# Altium schematic symbol library bethu.SchLib: 525 symbols (part 3 of 4)
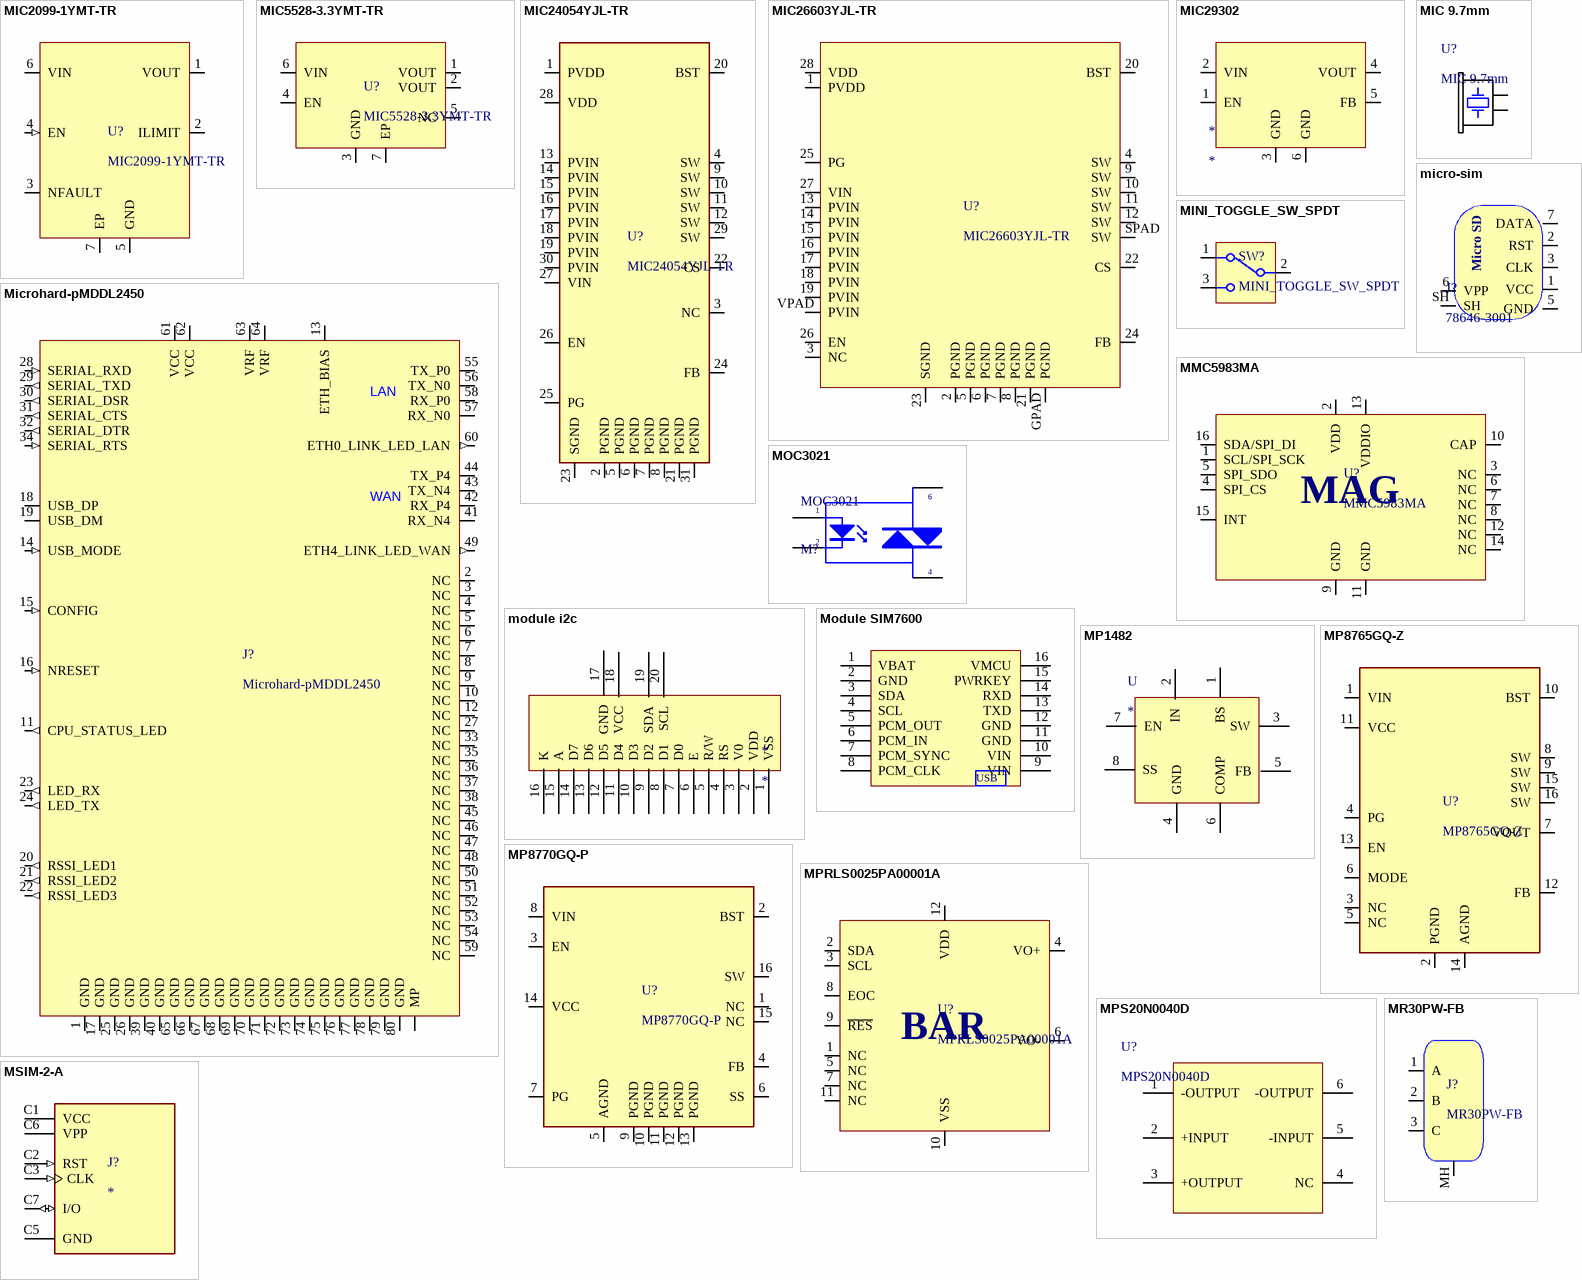
[diagram p24: symbols MIC2099-1YMT-TR to MSIM-2-A]

## MPRLS0025PA00001A
designator U?
Board Mount Absolute Pressure Sensor Honeywell I2C 0 to 25 psi; Manufacturer: Honeywell; Manufacturer Part Number: MPRLS0025PA00001A
footprint MPR-SMD-12
pins: 1 NC, 2 SDA, 3 SCL, 4 VO+, 5 NC, 6 VO-, 7 NC, 8 EOC, 9 ~{RES}, 10 VSS, 11 NC, 12 VDD
text: BAR

## MPS20N0040D
designator U?
footprint MPS20N0040D-S
pins: 1 -OUTPUT, 2 +INPUT, 3 +OUTPUT, 4 NC, 5 -INPUT, 6 -OUTPUT

## MR30PW-FB
designator J?
MR30 Connector Female 3 Position THT PCB-Mount 15A; Manufacturer: AMASS; Manufacturer Part Number: MR30PW-FB
footprint MR30PW-FB
pins: 1 A, 2 B, 3 C, MH

## MSIM-2-A
designator J?
Micro SIM Card Connector, 6 Positions, Connector and Ejector, Push In, Auto Eject Out, Surface Mount, 1.37 mm Height Above Board, Gold Flash; MF: Same Sky; MP: MSIM-2-A; SnapEDA_Link: https://www.snapeda.com/parts/MSIM-2-A/Same+Sky/view-part/?ref=snap; Package: None; Value: *; Check_prices: https://www.snapeda.com/parts/MSIM-2-A/Same+Sky/view-part/?ref=eda
footprint CUI_MSIM-2-A
pins: C1 VCC (power), C2 RST (in), C3 CLK (in), C5 GND (power), C6 VPP (power), C7 I/O (io)

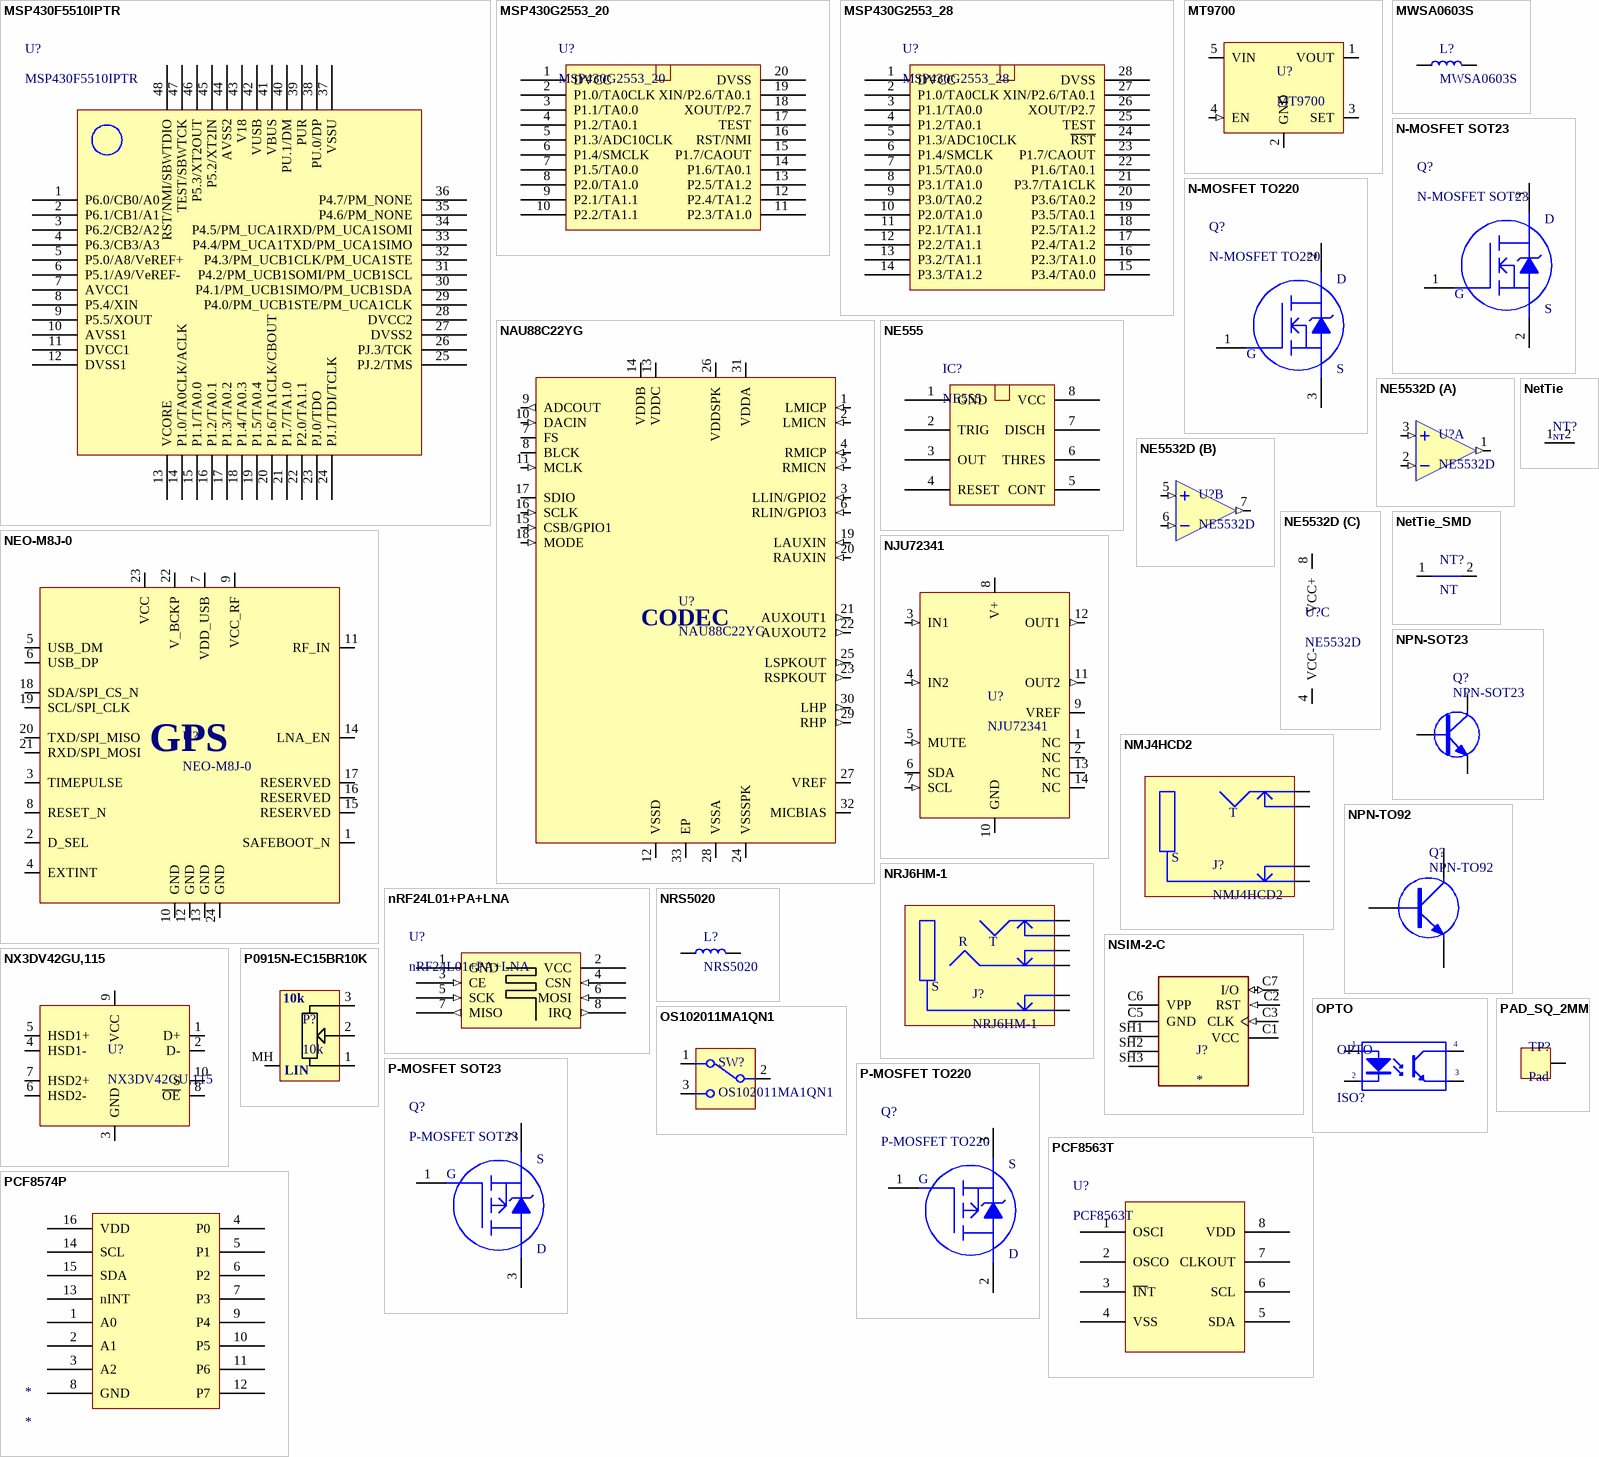
[diagram p13: symbols MSP430F5510IPTR to PCF8574P]

## MSP430F5510IPTR
designator U?
footprint MSP430F5510IPTR (TSQFP, 48-Leads, Body 9.2x9.2mm (max), Pitch 0.50mm, IPC Medium Density)
pins: 1 P6.0/CB0/A0, 2 P6.1/CB1/A1, 3 P6.2/CB2/A2, 4 P6.3/CB3/A3, 5 P5.0/A8/VeREF+, 6 P5.1/A9/VeREF-, 7 AVCC1, 8 P5.4/XIN, 9 P5.5/XOUT, 10 AVSS1, 11 DVCC1, 12 DVSS1, 13 VCORE, 14 P1.0/TA0CLK/ACLK, 15 P1.1/TA0.0, 16 P1.2/TA0.1, 17 P1.3/TA0.2, 18 P1.4/TA0.3, 19 P1.5/TA0.4, 20 P1.6/TA1CLK/CBOUT, 21 P1.7/TA1.0, 22 P2.0/TA1.1, 23 PJ.0/TDO, 24 PJ.1/TDI/TCLK, 25 PJ.2/TMS, 26 PJ.3/TCK, 27 DVSS2, 28 DVCC2, 29 P4.0/PM_UCB1STE/PM_UCA1CLK, 30 P4.1/PM_UCB1SIMO/PM_UCB1SDA, 31 P4.2/PM_UCB1SOMI/PM_UCB1SCL, 32 P4.3/PM_UCB1CLK/PM_UCA1STE, 33 P4.4/PM_UCA1TXD/PM_UCA1SIMO, 34 P4.5/PM_UCA1RXD/PM_UCA1SOMI, 35 P4.6/PM_NONE, 36 P4.7/PM_NONE, 37 VSSU, 38 PU.0/DP, 39 PUR, 40 PU.1/DM, 41 VBUS, 42 VUSB, 43 V18, 44 AVSS2, 45 P5.2/XT2IN, 46 P5.3/XT2OUT, 47 TEST/SBWTCK, 48 RST/NMI/SBWTDIO

## MSP430G2553_20
designator U?
footprint DIP20 (DIP 20, 20 PIN, W 300mil, Pin to pin 100mil)
pins: 1 DVCC, 2 P1.0/TA0CLK, 3 P1.1/TA0.0, 4 P1.2/TA0.1, 5 P1.3/ADC10CLK, 6 P1.4/SMCLK, 7 P1.5/TA0.0, 8 P2.0/TA1.0, 9 P2.1/TA1.1, 10 P2.2/TA1.1, 11 P2.3/TA1.0, 12 P2.4/TA1.2, 13 P2.5/TA1.2, 14 P1.6/TA0.1, 15 P1.7/CAOUT, 16 RST/NMI, 17 TEST, 18 XOUT/P2.7, 19 XIN/P2.6/TA0.1, 20 DVSS

## MSP430G2553_28
designator U?
footprint TSSOP 28PIN (TSOP, 28-Leads, Body 9.8x4.5mm (max), Pitch 0.65mm, IPC Medium Density)
pins: 1 DVCC, 2 P1.0/TA0CLK, 3 P1.1/TA0.0, 4 P1.2/TA0.1, 5 P1.3/ADC10CLK, 6 P1.4/SMCLK, 7 P1.5/TA0.0, 8 P3.1/TA1.0, 9 P3.0/TA0.2, 10 P2.0/TA1.0, 11 P2.1/TA1.1, 12 P2.2/TA1.1, 13 P3.2/TA1.1, 14 P3.3/TA1.2, 15 P3.4/TA0.0, 16 P2.3/TA1.0, 17 P2.4/TA1.2, 18 P2.5/TA1.2, 19 P3.5/TA0.1, 20 P3.6/TA0.2, 21 P3.7/TA1CLK, 22 P1.6/TA0.1, 23 P1.7/CAOUT, 24 ~{RST}, 25 TEST, 26 XOUT/P2.7, 27 XIN/P2.6/TA0.1, 28 DVSS

## MT9700
designator U?
Adjustable Current-Limited Power Distribution Switch; Manufacturer: Aerosemi; Manufacturer Part Number: MT9700
footprint SOT-23-5 (SOT23, 5-Leads, Body 2,90x2,80mm, Pitch 0,95mm, IPC Medium Density)
pins: 1 VOUT (power), 2 GND (power), 3 SET, 4 EN (in), 5 VIN (power)

## MWSA0603S
designator L?
Power Inductor SMD Sunlord MWSA0603S; Manufacturer Part Number: MWSA0603S-; Manufacturer: Sunlord
footprint MWSA0603S
pins: 1, 2

## N-MOSFET SOT23
designator Q?
footprint SOT23 - 3PIN
pins: 1 G, 2 S, 3 D

## N-MOSFET TO220
designator Q?
footprint TO-220 - FLAT
pins: 1 G, 2 D, 3 S

## NAU88C22YG
designator U?
24-bit Stereo Audio Codec with Speaker Driver; Manufacturer: Nuvoton Tech; Manufacturer Part Number: NAU88C22YG
footprint QFN32-5x5-0.5
pins: 1 LMICP (in), 2 LMICN (in), 3 LLIN/GPIO2 (in), 4 RMICP (in), 5 RMICN (in), 6 RLIN/GPIO3 (in), 7 FS (io), 8 BLCK (io), 9 ADCOUT (out), 10 DACIN (in), 11 MCLK (in), 12 VSSD (power), 13 VDDC (power), 14 VDDB (power), 15 CSB/GPIO1 (in), 16 SCLK (in), 17 SDIO (io), 18 MODE (in), 19 LAUXIN (in), 20 RAUXIN (in), 21 AUXOUT1 (out), 22 AUXOUT2 (out), 23 RSPKOUT (out), 24 VSSSPK (power), 25 LSPKOUT (out), 26 VDDSPK (power), 27 VREF (power), 28 VSSA (power), 29 RHP (out), 30 LHP (out), 31 VDDA (power), 32 MICBIAS (power), 33 EP (power)
text: CODEC

## NE555
designator IC?
footprint DIP8 (W.300/L.400)
pins: 1 GND, 2 TRIG, 3 OUT, 4 RESET, 5 CONT, 6 THRES, 7 DISCH, 8 VCC

## NE5532D
designator U?
Dual Low-Noise Operational Amplifiers; Manufacturer: Texas Instruments; Manufacturer Part Number: NE5532D
footprint SOIC-8 (SOIC, 8-Leads, Body 4.91x3.90mm, Pitch 1.27mm, IPC Medium Density)
part A pins: 1 1OUT (out), 2 1IN- (in), 3 1IN+ (in)
part B pins: 5 2IN+ (in), 6 2IN- (in), 7 2OUT (out)
part C pins: 4 VCC-, 8 VCC+

## NEO-M8J-0
designator U?
u-blox M8 concurrent GNSS module; Manufacturer: u-blox; Manufacturer Part Number: NEO-M8J-0
footprint NEO-M8
pins: 1 SAFEBOOT_N, 2 D_SEL, 3 TIMEPULSE, 4 EXTINT, 5 USB_DM, 6 USB_DP, 7 VDD_USB, 8 RESET_N, 9 VCC_RF, 10 GND, 11 RF_IN, 12 GND, 13 GND, 14 LNA_EN, 15 RESERVED, 16 RESERVED, 17 RESERVED, 18 SDA/SPI_CS_N, 19 SCL/SPI_CLK, 20 TXD/SPI_MISO, 21 RXD/SPI_MOSI, 22 V_BCKP, 23 VCC, 24 GND
text: GPS

## NetTie
designator NT?, comment NT  (value not drawn)  (net tie, no BOM)
Net Tie
footprint NETTIE
pins: 1, 2

## NetTie_SMD
designator NT?, comment NT  (net tie, no BOM)
Net Tie SMD
footprint NETTIE_SMD
pins: 1, 2

## NJU72341
designator U?
2-Channel Audio Volume Control I2C; Manufacturer: Nisshinbo; Manufacturer Part Number: NJU72341V-TE2
footprint SSOP-14
pins: 1 NC, 2 NC, 3 IN1 (in), 4 IN2 (in), 5 MUTE (in), 6 SDA (io), 7 SCL (in), 8 V+ (power), 9 VREF (power), 10 GND (power), 11 OUT2 (out), 12 OUT1 (out), 13 NC, 14 NC

## NMJ4HCD2
designator J?
1/4" Mono Jack, TS Switched; Manufacturer: Neutrik; Manufacturer Part Number: NMJ4HCD2
footprint NMJ4HCD2
pins: S, SN, T, TN

## NPN-SOT23
designator Q?
footprint SOT23 - 3PIN
pins: 1 B, 2 E, 3 C

## NPN-TO92
designator Q?
footprint TO-92 (TO, Flat Index; 3 In-Line, Axial Leads; Body Dia. 4.8mm)
pins: 1 E, 2 C, 3 B

## nRF24L01+PA+LNA
designator U?
footprint nRF24L01+PA+LNA (Module nRF24L01+PA+LNA)
pins: 1 GND (power), 2 VCC (power), 3 CE (in), 4 CSN (in), 5 SCK (in), 6 MOSI (in), 7 MISO (out), 8 IRQ (out)

## NRJ6HM-1
designator J?
1/4" Stereo Jack, TRS Switched; Manufacturer: Neutrik; Manufacturer Part Number: NRJ6HM-1
footprint NRJ6HM-1
pins: R, RN, S, SN, T, TN

## NRS5020
designator L?
NRS5020 SMD Power Inductor Taiyo Yuden; Manufacturer: Taiyo Yuden; Manufacturer Part Number: NRS5020
footprint NRS5020
pins: 1, 2

## NSIM-2-C
designator J?
Nano SIM Card Connectors, 6 Positions, Connector, Hinged, Surface Mount, 1.4 mm Height Above Board, Gold Flash; MF: Same Sky; MP: NSIM-2-C; SnapEDA_Link: https://www.snapeda.com/parts/NSIM-2-C/Same+Sky/view-part/?ref=snap; Package: None; Value: *; Check_prices: https://www.snapeda.com/parts/NSIM-2-C/Same+Sky/view-part/?ref=eda
footprint CUI_NSIM-2-C
pins: C1 VCC (power), C2 RST (in), C3 CLK (in), C5 GND (power), C6 VPP (power), C7 I/O (io), SH1 CASE_GND (power), SH2 CASE_GND (power), SH3 CASE_GND (power)

## NX3DV42GU,115
designator U?
USB2.0 HS DPDT Switch; Manufacturer: NXP Semiconductors; Manufacturer Part Number: NX3DV42GU,115
footprint XQFN-10_SOT1160-1
pins: 1 D+, 2 D-, 3 GND, 4 HSD1-, 5 HSD1+, 6 HSD2-, 7 HSD2+, 8 ~{OE}, 9 VCC, 10 S

## OPTO
designator ISO?
Value: TLP5211
footprint PC817 SMD (SMD)
footprint PC817 DIP
pins: 1 A "Anode", 2 K "Cathode", 3 E "Emitter", 4 C "Collector"

## OS102011MA1QN1
designator SW?
Slide Switch SPDT Horizontal THT; Manufacturer: C&K; Manufacturer Part Number: OS102011MA1QN1
footprint OS102011MA1QN1
pins: 1, 2 COM, 3

## P0915N-EC15BR10K
designator P?, comment 10k
Potentiometer Vertical 10k Linear Taper THT PCB-Mount Smooth Shaft w/ Slot D=6mm L=15mm; Manufacturer: TT Electronics; Manufacturer Part Number: P0915N-EC15BR10K
footprint P0915N-EC15BR10K
pins: 1, 2, 3, MH
text: LIN

## P-MOSFET SOT23
designator Q?
footprint SOT23 - 3PIN
pins: 1 G, 2 S, 3 D

## P-MOSFET TO220
designator Q?
footprint TO-220 - FLAT
pins: 1 G, 2 D, 3 S

## PAD_SQ_2MM
designator TP?, comment Pad  (no BOM)
Test Point Square 2mm
footprint PAD_SQ_2MM
pins: 1

## PCF8563T
designator U?
footprint TSSOP 8 PIN
pins: 1 OSCI, 2 OSCO, 3 ~{IN}T, 4 VSS, 5 SDA, 6 SCL, 7 CLKOUT, 8 VDD

## PCF8574P
designator *
footprint SOIC16 DW (SOIC, 16-Leads, Body 10.5x7.6mm (max), Pitch 1.27mm, IPC Medium Density)
pins: 1 A0, 2 A1, 3 A2, 4 P0, 5 P1, 6 P2, 7 P3, 8 GND, 9 P4, 10 P5, 11 P6, 12 P7, 13 nINT, 14 SCL, 15 SDA, 16 VDD

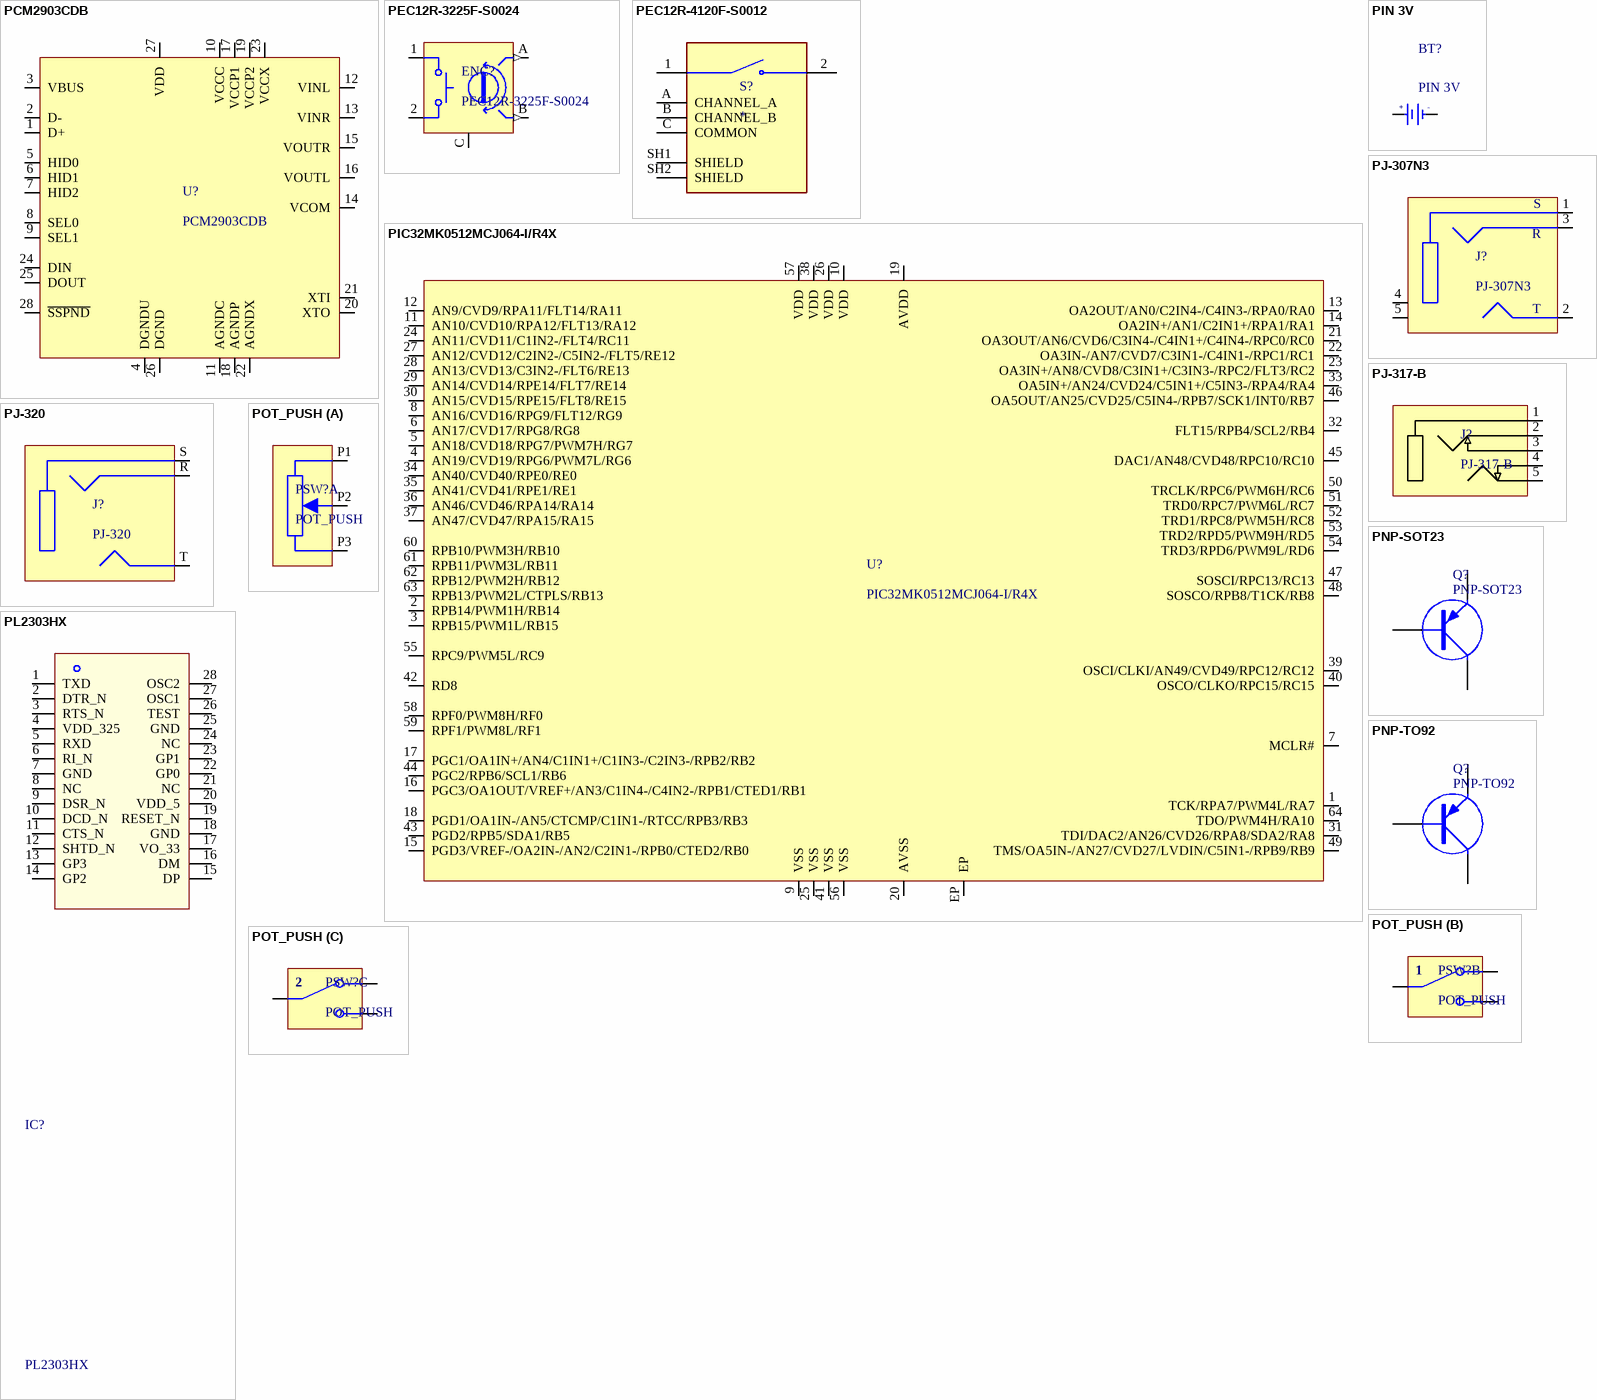
[diagram p14: symbols PCM2903CDB to POT_PUSH]

## PCM2903CDB
designator U?
Stereo USB1.1 CODEC with line-out and S/PDIF I/O, Self-powered (HID Interface); Manufacturer: Texas Instruments; Manufacturer Part Number: PCM2903CDB
footprint SSOP-28
pins: 1 D+, 2 D-, 3 VBUS, 4 DGNDU, 5 HID0, 6 HID1, 7 HID2, 8 SEL0, 9 SEL1, 10 VCCC, 11 AGNDC, 12 VINL, 13 VINR, 14 VCOM, 15 VOUTR, 16 VOUTL, 17 VCCP1, 18 AGNDP, 19 VCCP2, 20 XTO, 21 XTI, 22 AGNDX, 23 VCCX, 24 DIN, 25 DOUT, 26 DGND, 27 VDD, 28 ~{SSPND}

## PEC12R-3225F-S0024
designator ENC?
Rotary Encoder with Switch 20 Detents 7mm Bushing 20mm Threaded Shaft Vertical; Manufacturer: Bourns; Manufacturer Part Number: PEC12R-3225F-S0024; Distributor Link: https://www.mouser.de/ProductDetail/Bourns/PEC12R-3225F-S0024?qs=%252B9%2Fcbd0IE0RkGCm1rUs7CA%3D%3D
footprint PEC12R-3225F-S
pins: 1, 2, A (out), B (out), C GND (power)

## PEC12R-4120F-S0012
designator S?
Mechanical Encoder Rotary Incremental Flat 0.007N.m Straight Quadrature Digital Square Wave 12PPR Through Hole PC Pin; MF: Bourns Inc.; MP: PEC12R-4120F-S0012; SnapEDA_Link: https://www.snapeda.com/parts/PEC12R-4120F-S0012/Bourns/view-part/?ref=snap; Package: None; Value: *; Check_prices: https://www.snapeda.com/parts/PEC12R-4120F-S0012/Bourns/view-part/?ref=eda
footprint XDCR_PEC12R-4120F-S0012
pins: 1, 2, A CHANNEL_A, B CHANNEL_B, C COMMON, SH1 SHIELD, SH2 SHIELD

## PIC32MK0512MCJ064-I/R4X
designator U?
32-bit Motor Control Application MCU with CAN FD, FPU, ECC Flash, 512kB Flash, 64kB SRAM, and Op amps; Manufacturer: Microchip; Manufacturer Part Number: PIC32MK0512MCJ064-I/R4X
footprint QFN-64-9x9x0.9-0.5P (QFN, 64-Leads, Body 9.00x9.00mm, Pitch 0.50mm, Thermal Pad 5.40x5.40mm, IPC Medium Density)
pins: 1 TCK/RPA7/PWM4L/RA7, 2 RPB14/PWM1H/RB14, 3 RPB15/PWM1L/RB15, 4 AN19/CVD19/RPG6/PWM7L/RG6, 5 AN18/CVD18/RPG7/PWM7H/RG7, 6 AN17/CVD17/RPG8/RG8, 7 MCLR#, 8 AN16/CVD16/RPG9/FLT12/RG9, 9 VSS (power), 10 VDD (power), 11 AN10/CVD10/RPA12/FLT13/RA12, 12 AN9/CVD9/RPA11/FLT14/RA11, 13 OA2OUT/AN0/C2IN4-/C4IN3-/RPA0/RA0, 14 OA2IN+/AN1/C2IN1+/RPA1/RA1, 15 PGD3/VREF-/OA2IN-/AN2/C2IN1-/RPB0/CTED2/RB0, 16 PGC3/OA1OUT/VREF+/AN3/C1IN4-/C4IN2-/RPB1/CTED1/RB1, 17 PGC1/OA1IN+/AN4/C1IN1+/C1IN3-/C2IN3-/RPB2/RB2, 18 PGD1/OA1IN-/AN5/CTCMP/C1IN1-/RTCC/RPB3/RB3, 19 AVDD (power), 20 AVSS (power), 21 OA3OUT/AN6/CVD6/C3IN4-/C4IN1+/C4IN4-/RPC0/RC0, 22 OA3IN-/AN7/CVD7/C3IN1-/C4IN1-/RPC1/RC1, 23 OA3IN+/AN8/CVD8/C3IN1+/C3IN3-/RPC2/FLT3/RC2, 24 AN11/CVD11/C1IN2-/FLT4/RC11, 25 VSS (power), 26 VDD (power), 27 AN12/CVD12/C2IN2-/C5IN2-/FLT5/RE12, 28 AN13/CVD13/C3IN2-/FLT6/RE13, 29 AN14/CVD14/RPE14/FLT7/RE14, 30 AN15/CVD15/RPE15/FLT8/RE15, 31 TDI/DAC2/AN26/CVD26/RPA8/SDA2/RA8, 32 FLT15/RPB4/SCL2/RB4, 33 OA5IN+/AN24/CVD24/C5IN1+/C5IN3-/RPA4/RA4, 34 AN40/CVD40/RPE0/RE0, 35 AN41/CVD41/RPE1/RE1, 36 AN46/CVD46/RPA14/RA14, 37 AN47/CVD47/RPA15/RA15, 38 VDD (power), 39 OSCI/CLKI/AN49/CVD49/RPC12/RC12, 40 OSCO/CLKO/RPC15/RC15, 41 VSS (power), 42 RD8, 43 PGD2/RPB5/SDA1/RB5, 44 PGC2/RPB6/SCL1/RB6, 45 DAC1/AN48/CVD48/RPC10/RC10, 46 OA5OUT/AN25/CVD25/C5IN4-/RPB7/SCK1/INT0/RB7, 47 SOSCI/RPC13/RC13, 48 SOSCO/RPB8/T1CK/RB8, 49 TMS/OA5IN-/AN27/CVD27/LVDIN/C5IN1-/RPB9/RB9, 50 TRCLK/RPC6/PWM6H/RC6, 51 TRD0/RPC7/PWM6L/RC7, 52 TRD1/RPC8/PWM5H/RC8, 53 TRD2/RPD5/PWM9H/RD5, 54 TRD3/RPD6/PWM9L/RD6, 55 RPC9/PWM5L/RC9, 56 VSS (power), 57 VDD (power), 58 RPF0/PWM8H/RF0, 59 RPF1/PWM8L/RF1, 60 RPB10/PWM3H/RB10, 61 RPB11/PWM3L/RB11, 62 RPB12/PWM2H/RB12, 63 RPB13/PWM2L/CTPLS/RB13, 64 TDO/PWM4H/RA10, EP (power)

## PIN 3V
designator BT?
Value: PIN 3V
footprint PIN3V (Socket PIN 3V)
pins: 1 +3V, 2 GND
text: +; -

## PJ-307N3
designator J?
3.5mm Headphone Jack THT; Manufacturer: XKB Connectivity; Manufacturer Part Number: PJ-307N3
footprint PJ-307N3
pins: 1 Sleeve, 2 Tip, 3 Ring, 4 NC, 5 NC
text: S; R; T

## PJ-317-B
designator J?
3.5mm 5-Position Audio Jack Horizontal Female THT; Manufacturer: XKB; Manufacturer Part Number: PJ-317-B
footprint PJ-317-B
pins: 1, 2, 3, 4, 5

## PJ-320
designator J?
3.5mm Headphone Jack THT; Manufacturer: XKB Connectivity; Manufacturer Part Number: PJ-320
footprint PJ-320
pins: R Ring, S Sleeve, T Tip

## PL2303HX
designator IC?
USB - RS232 Converter; Value: PL2303
footprint SSOP28
pins: 1 TXD, 2 DTR_N, 3 RTS_N, 4 VDD_325, 5 RXD, 6 RI_N, 7 GND, 8 NC, 9 DSR_N, 10 DCD_N, 11 CTS_N, 12 SHTD_N, 13 GP3, 14 GP2, 15 DP, 16 DM, 17 VO_33, 18 GND, 19 RESET_N, 20 VDD_5, 21 NC, 22 GP0, 23 GP1, 24 NC, 25 GND, 26 TEST, 27 OSC1, 28 OSC2

## PNP-SOT23
designator Q?
footprint SOT23 - 3PIN
pins: 1 B, 2 E, 3 C

## PNP-TO92
designator Q?
footprint TO-92 (TO, Flat Index; 3 In-Line, Axial Leads; Body Dia. 4.8mm)
pins: 1 E, 2 B, 3 C

## POT_PUSH
designator PSW?
Potentiometer Push-Pull/Push-Push Through-Hole Generic; Manufacturer: *; Manufacturer Part Number: *
footprint POT_PUSH
part A pins: P1 1, P2 2, P3 3
part B pins: SW1COM COM, SW1NC NC, SW1NO NO
part C pins: SW2COM COM, SW2NC NC, SW2NO NO

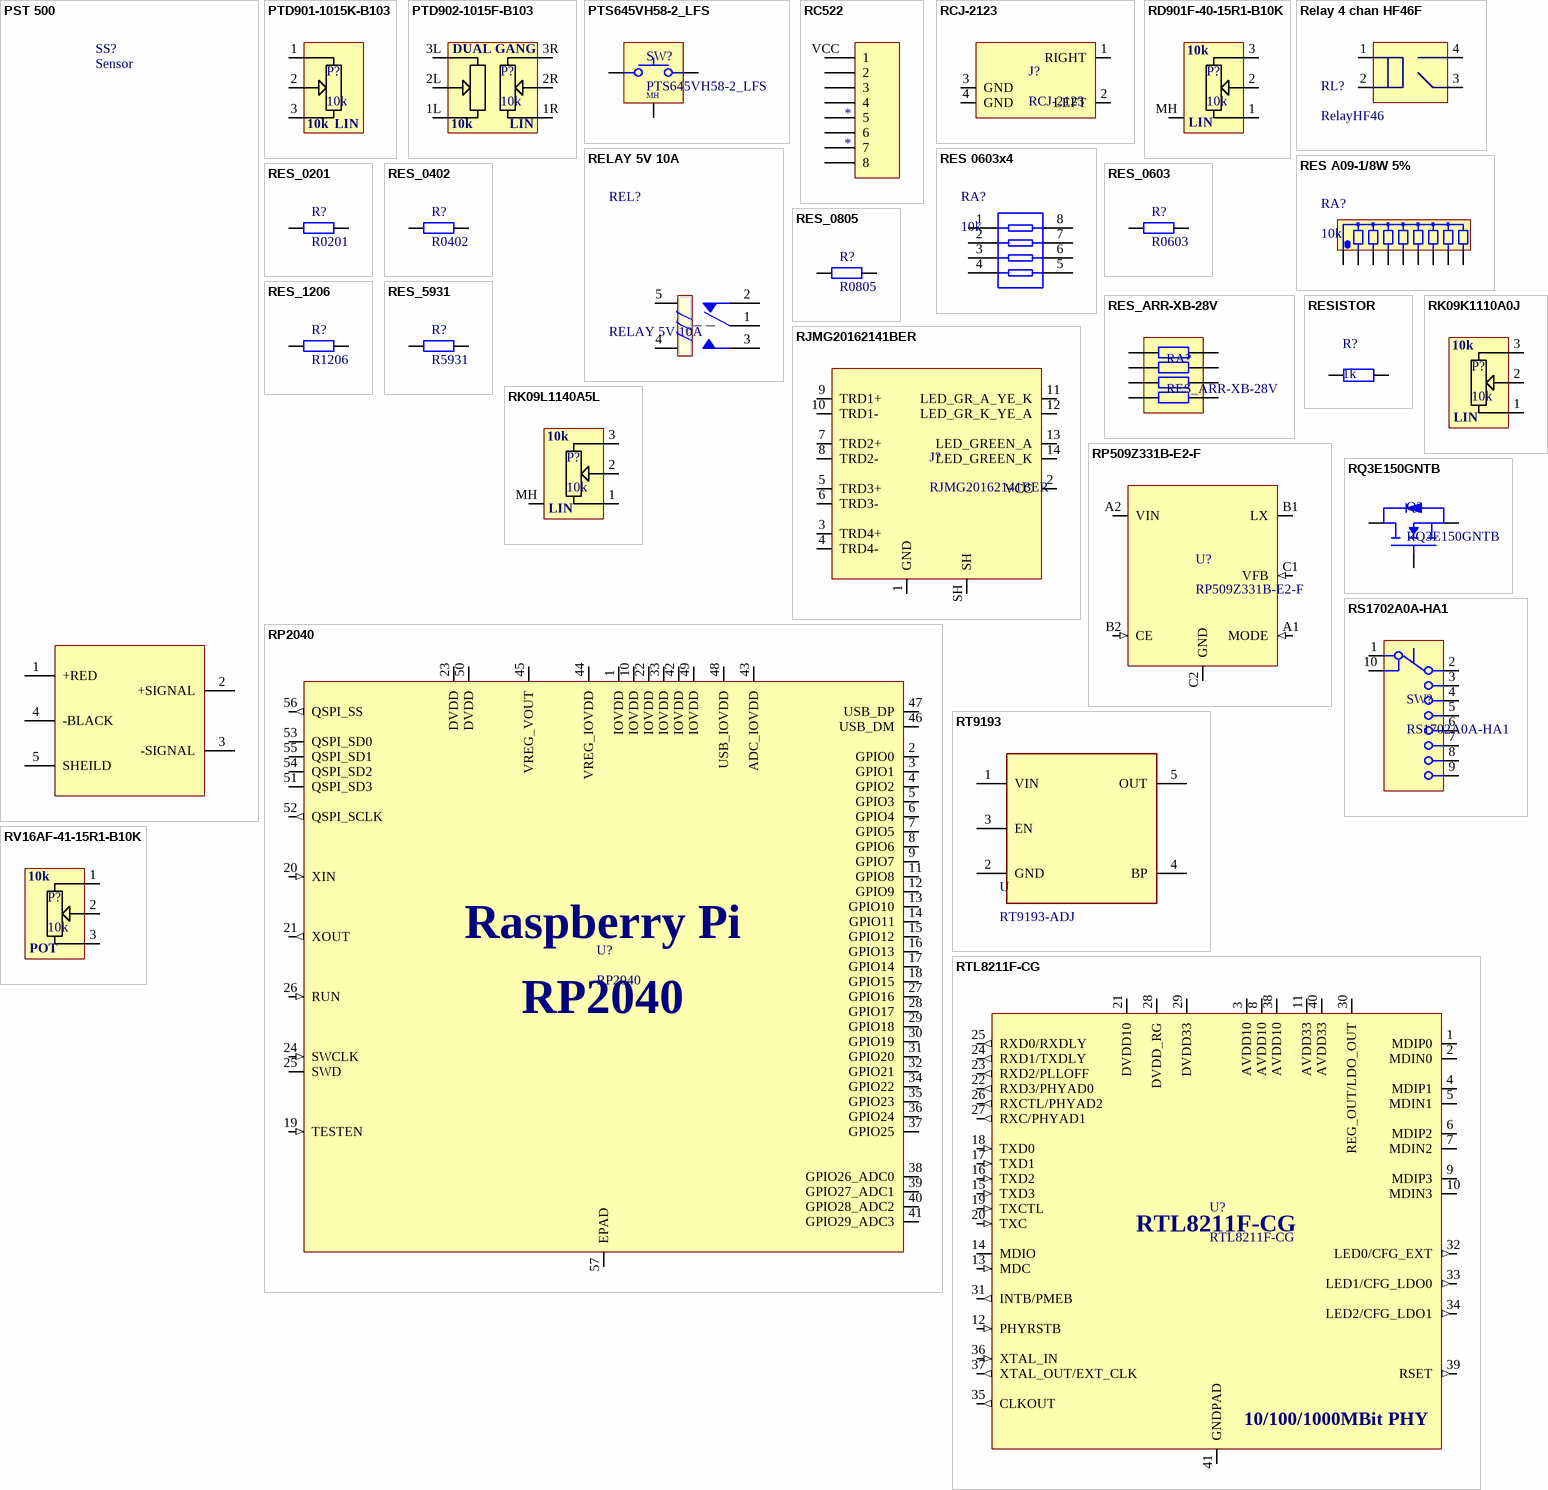
[diagram p15: symbols PST 500 to RV16AF-41-15R1-B10K]

## PST 500
designator SS?, comment Sensor
Value: VR 10K
footprint Header CH5.96 MALE
pins: 1 +RED, 2 +SIGNAL, 3 -SIGNAL, 4 -BLACK, 5 SHEILD

## PTD901-1015K-B103
designator P?, comment 10k
Potentiometer Horizontal 10k Linear Taper 10% Knurled Shaft THT PCB-Mount; Manufacturer: Bourns; Manufacturer Part Number: PTD901-1015K-B103; Distributor Link: https://eu.mouser.com/ProductDetail/Bourns/PTD901-1015K-B103?qs=h2IHEVivlqCjfZBh0jm4Mw%3D%3D
footprint PTD901-XX15K
pins: 1, 2, 3
text: LIN

## PTD902-1015F-B103
designator P?, comment 10k
Potentiometer Horizontal 10k Dual Gang Linear Taper 10% THT PCB-Mount; Manufacturer: Bourns; Manufacturer Part Number: PTD902-1015F-B103
footprint PTD902-XX15F
pins: 1L 1, 1R 1, 2L 2, 2R 2, 3L 3, 3R 3
text: DUAL GANG; LIN

## PTS645VH58-2_LFS
designator SW?
Tactile Switch THT Right-Angle; Manufacturer: C&K; Manufacturer Part Number: PTS645VH58-2 LFS; Distributor Link: https://www.mouser.de/ProductDetail/CK/PTS645VH58-2-LFS?qs=rqnA19JZHeRF88sNwv94nA%3D%3D
footprint PTS645VH58-2-LFS
pins: 1, 2, MH

## RC522
designator *
footprint RFID RC522
pins: 2, 3, 4, 5, 6, 7, 8, VCC 1

## RCJ-2123
designator J?
RCA Phono Connectors Dual Red White PCB Mount RIght-Angle THT; Manufacturer: CUI; Manufacturer Part Number: RCJ-2123
footprint RCJ-2123
pins: 1 RIGHT, 2 LEFT, 3 GND, 4 GND

## RD901F-40-15R1-B10K
designator P?, comment 10k
Potentiometer Vertical 10k 20% Linear Taper THT PCB-Mount 6/15mm Shaft Smooth; Manufacturer: Alps Alpine; Manufacturer Part Number: RD901F-40-15R1-B10K; Distributor Link: https://www.mouser.de/ProductDetail/Alpha-Taiwan/RD901F-40-15R1-B10K-00DL1?qs=1mbolxNpo8c1WX5KjxIjjw%3D%3D
footprint RD901F-40-15R1
pins: 1, 2, 3, MH
text: LIN

## Relay 4 chan HF46F
designator RL?, comment RelayHF46
Relay 4 chan HF46F; Ten: Relay 5V5A HF46F-G 5-HS1; Ma_Hang: MH003879
footprint Relay 4 chan HF46F
pins: 1, 2, 3 AC/DC, 4 AC/DC

## RELAY 5V 10A
designator REL?
footprint RELAY 5V-10A
pins: 1, 2, 3, 4, 5

## RES 0603x4
designator RA?, comment 10k
footprint RES 0603x4
pins: 1, 2, 3, 4, 5, 6, 7, 8

## RES A09-1/8W 5%
designator RA?, comment 10k
footprint RES A09-1/8W 5%
pins: 1, 2, 3, 4, 5, 6, 7, 8, 9

## RES_0201
designator R?, comment R0201
Resistor SMD 0201; Manufacturer: *; Manufacturer Part Number: *; Distributor Link: *; LCSC: *
footprint RES_0201
pins: 1, 2

## RES_0402
designator R?, comment R0402
Resistor SMD 0402; Manufacturer: *; Manufacturer Part Number: *; Distributor Link: *; LCSC: *
footprint RES_0402
pins: 1, 2

## RES_0603
designator R?, comment R0603
Resistor SMD 0603; Manufacturer: *; Manufacturer Part Number: *; Distributor Link: *; LCSC: *
footprint RES_0603
pins: 1, 2

## RES_0805
designator R?, comment R0805
Resistor SMD 0805; Manufacturer: *; Manufacturer Part Number: *; Distributor Link: *; LCSC: *
footprint RES_0805
pins: 1, 2

## RES_1206
designator R?, comment R1206
Resistor SMD 1206; Manufacturer: *; Manufacturer Part Number: *; Distributor Link: *; LCSC: *
footprint RES_1206
pins: 1, 2

## RES_5931
designator R?, comment R5931
Current Sense Resistor SMD 0805; Manufacturer: *; Manufacturer Part Number: *; Distributor Link: *
footprint RES_5931
pins: 1, 2

## RES_ARR-XB-28V
designator RA?
Resistor Array 0402 4 Elements Panasonic EXB-28V; Manufacturer: Panasonic
footprint EXB-28V
pins: 1, 2, 3, 4, 5, 6, 7, 8

## RESISTOR
designator R?, comment 1k
Value: R1/4W - 1K
footprint RESISTOR (R 1/2W, 2 pin, 300mil)
footprint R1/8W (R 1/8W, 2 pin, 300mil)
footprint R1/2W (R 1/2W, 2 pin, 400mil)
footprint R1/4WD (R 1/4W, 2 Pin, 150mil)
footprint 0805 RESISTOR (Compoment SMD 80x50mil)
pins: 1, 2

## RJMG20162141BER
designator J?
100/1000Base-T Magnetics Single-Port RJ45 Connector with Integrated Magnetics and LEDs; Manufacturer: Amphenol; Manufacturer Part Number: RJMG20162141BER; Distributor Link: https://www.mouser.de/ProductDetail/Amphenol-Commercial-Products/RJMG20162141BER?qs=AVT0UMTfAuItaMrM1bOyzg%3D%3D; LCSC: C5433552
footprint RJMG20162141BER
pins: 1 GND, 2 VCC, 3 TRD4+ (io), 4 TRD4- (io), 5 TRD3+ (io), 6 TRD3- (io), 7 TRD2+ (io), 8 TRD2- (io), 9 TRD1+ (io), 10 TRD1- (io), 11 LED_GR_A_YE_K, 12 LED_GR_K_YE_A, 13 LED_GREEN_A, 14 LED_GREEN_K, SH

## RK09K1110A0J
designator P?, comment 10k
Potentiometer Horizontal 10k Linear Taper (1B) 20% THT PCB-Mount; Manufacturer: ALPSALPINE; Manufacturer Part Number: RK09K1110A0J
footprint RK09K1110A0J
pins: 1, 2, 3
text: LIN

## RK09L1140A5L
designator P?, comment 10k
Potentiometer Vertical 10k Linear Taper (1B) THT PCB-Mount D-Type 6mm Shaft; Manufacturer: Alps Alpine; Manufacturer Part Number: RK09L1140A5L
footprint RK09L1140A5L
pins: 1, 2, 3, MH
text: LIN

## RP509Z331B-E2-F
designator U?
0.5A/1A PWM/VFM Step-down DC/DC Converter with Synchronous Rectifier; Manufacturer: Nisshinbo; Manufacturer Part Number: RP509Z331B-E2-F; Distributor Link: https://www.mouser.de/ProductDetail/Nisshinbo/RP509Z331B-E2-F?qs=sGAEpiMZZMsMIqGZiACxIaRXO1%252BRokEQs7docw04LJAW9g0rX9qA6Q%3D%3D
footprint WLCSP-6-P6
pins: A1 MODE (in), A2 VIN (power), B1 LX (power), B2 CE (in), C1 VFB (in), C2 GND (power)

## RP2040
designator U?
32-Bit Dual-Core ARM Cortex-M0+ Microcontroller; Manufacturer: Raspberry Pi; Manufacturer Part Number: RP2040
footprint QFN-56-EP
pins: 1 IOVDD (power), 2 GPIO0 (io), 3 GPIO1 (io), 4 GPIO2 (io), 5 GPIO3 (io), 6 GPIO4 (io), 7 GPIO5 (io), 8 GPIO6 (io), 9 GPIO7 (io), 10 IOVDD (power), 11 GPIO8 (io), 12 GPIO9 (io), 13 GPIO10 (io), 14 GPIO11 (io), 15 GPIO12 (io), 16 GPIO13 (io), 17 GPIO14 (io), 18 GPIO15 (io), 19 TESTEN (in), 20 XIN (in), 21 XOUT (out), 22 IOVDD (power), 23 DVDD (power), 24 SWCLK (in), 25 SWD (io), 26 RUN (in), 27 GPIO16 (io), 28 GPIO17 (io), 29 GPIO18 (io), 30 GPIO19 (io), 31 GPIO20 (io), 32 GPIO21 (io), 33 IOVDD (power), 34 GPIO22 (io), 35 GPIO23 (io), 36 GPIO24 (io), 37 GPIO25 (io), 38 GPIO26_ADC0 (io), 39 GPIO27_ADC1 (io), 40 GPIO28_ADC2 (io), 41 GPIO29_ADC3 (io), 42 IOVDD (power), 43 ADC_IOVDD (power), 44 VREG_IOVDD (power), 45 VREG_VOUT (power), 46 USB_DM (io), 47 USB_DP (io), 48 USB_IOVDD (power), 49 IOVDD (power), 50 DVDD (power), 51 QSPI_SD3 (io), 52 QSPI_SCLK (out), 53 QSPI_SD0 (io), 54 QSPI_SD2 (io), 55 QSPI_SD1 (io), 56 QSPI_SS (out), 57 EPAD (power)

## RQ3E150GNTB
designator Q?
Nch 30V 39A Middle Power MOSFET; Manufacturer: ROHM; Manufacturer Part Number: RQ3E150GNTB
footprint HSMT-8
pins: D, G, S

## RS1702A0A-HA1
designator SW?
Rotarye Switch 10-Position THT; Manufacturer: Soundwell; Manufacturer Part Number: RS1702A0A-HA1
footprint RS1702A0A-HA1-5-012
pins: 1 COM, 2, 3, 4, 5, 6, 7, 8, 9, 10 COM

## RT9193
designator U, comment RT9193-ADJ
Linear Voltage Regulator IC Positive Fixed 1 Output 300mA SOT-23-5
footprint SOT-23-5 (SOT23, 5-Leads, Body 2,90x2,80mm, Pitch 0,95mm, IPC Medium Density)
pins: 1 VIN, 2 GND, 3 EN, 4 BP, 5 OUT

## RTL8211F-CG
designator U?
INTEGRATED 10/100/1000M ETHERNET PRECISION TRANSCEIVER; Manufacturer: Realtek; Manufacturer Part Number: RTL8211F-CG
footprint QFN-40-0.4-EP (QFN 40 Pads 0.4mm Pitch Thermal Pad)
pins: 1 MDIP0 (io), 2 MDIN0 (io), 3 AVDD10 (power), 4 MDIP1 (io), 5 MDIN1 (io), 6 MDIP2 (io), 7 MDIN2 (io), 8 AVDD10 (power), 9 MDIP3 (io), 10 MDIN3 (io), 11 AVDD33 (power), 12 PHYRSTB (in), 13 MDC (in), 14 MDIO (io), 15 TXD3 (in), 16 TXD2 (in), 17 TXD1 (in), 18 TXD0 (in), 19 TXCTL (in), 20 TXC (in), 21 DVDD10 (power), 22 RXD3/PHYAD0 (out), 23 RXD2/PLLOFF (out), 24 RXD1/TXDLY (out), 25 RXD0/RXDLY (out), 26 RXCTL/PHYAD2 (out), 27 RXC/PHYAD1 (out), 28 DVDD_RG (power), 29 DVDD33 (power), 30 REG_OUT/LDO_OUT (power), 31 INTB/PMEB (out), 32 LED0/CFG_EXT (out), 33 LED1/CFG_LDO0 (out), 34 LED2/CFG_LDO1 (out), 35 CLKOUT (out), 36 XTAL_IN (in), 37 XTAL_OUT/EXT_CLK (out), 38 AVDD10 (power), 39 RSET (out), 40 AVDD33 (power), 41 GNDPAD (power)
text: 10/100/1000MBit PHY

## RV16AF-41-15R1-B10K
designator P?, comment 10k
Potentiometer Vertical 10k THT Chassis-Mount 16mm; Manufacturer: Alpha; Manufacturer Part Number: RV16AF-41-15R1-B10K
footprint RV16AF-41-15R1-B10K
pins: 1, 2, 3
text: POT

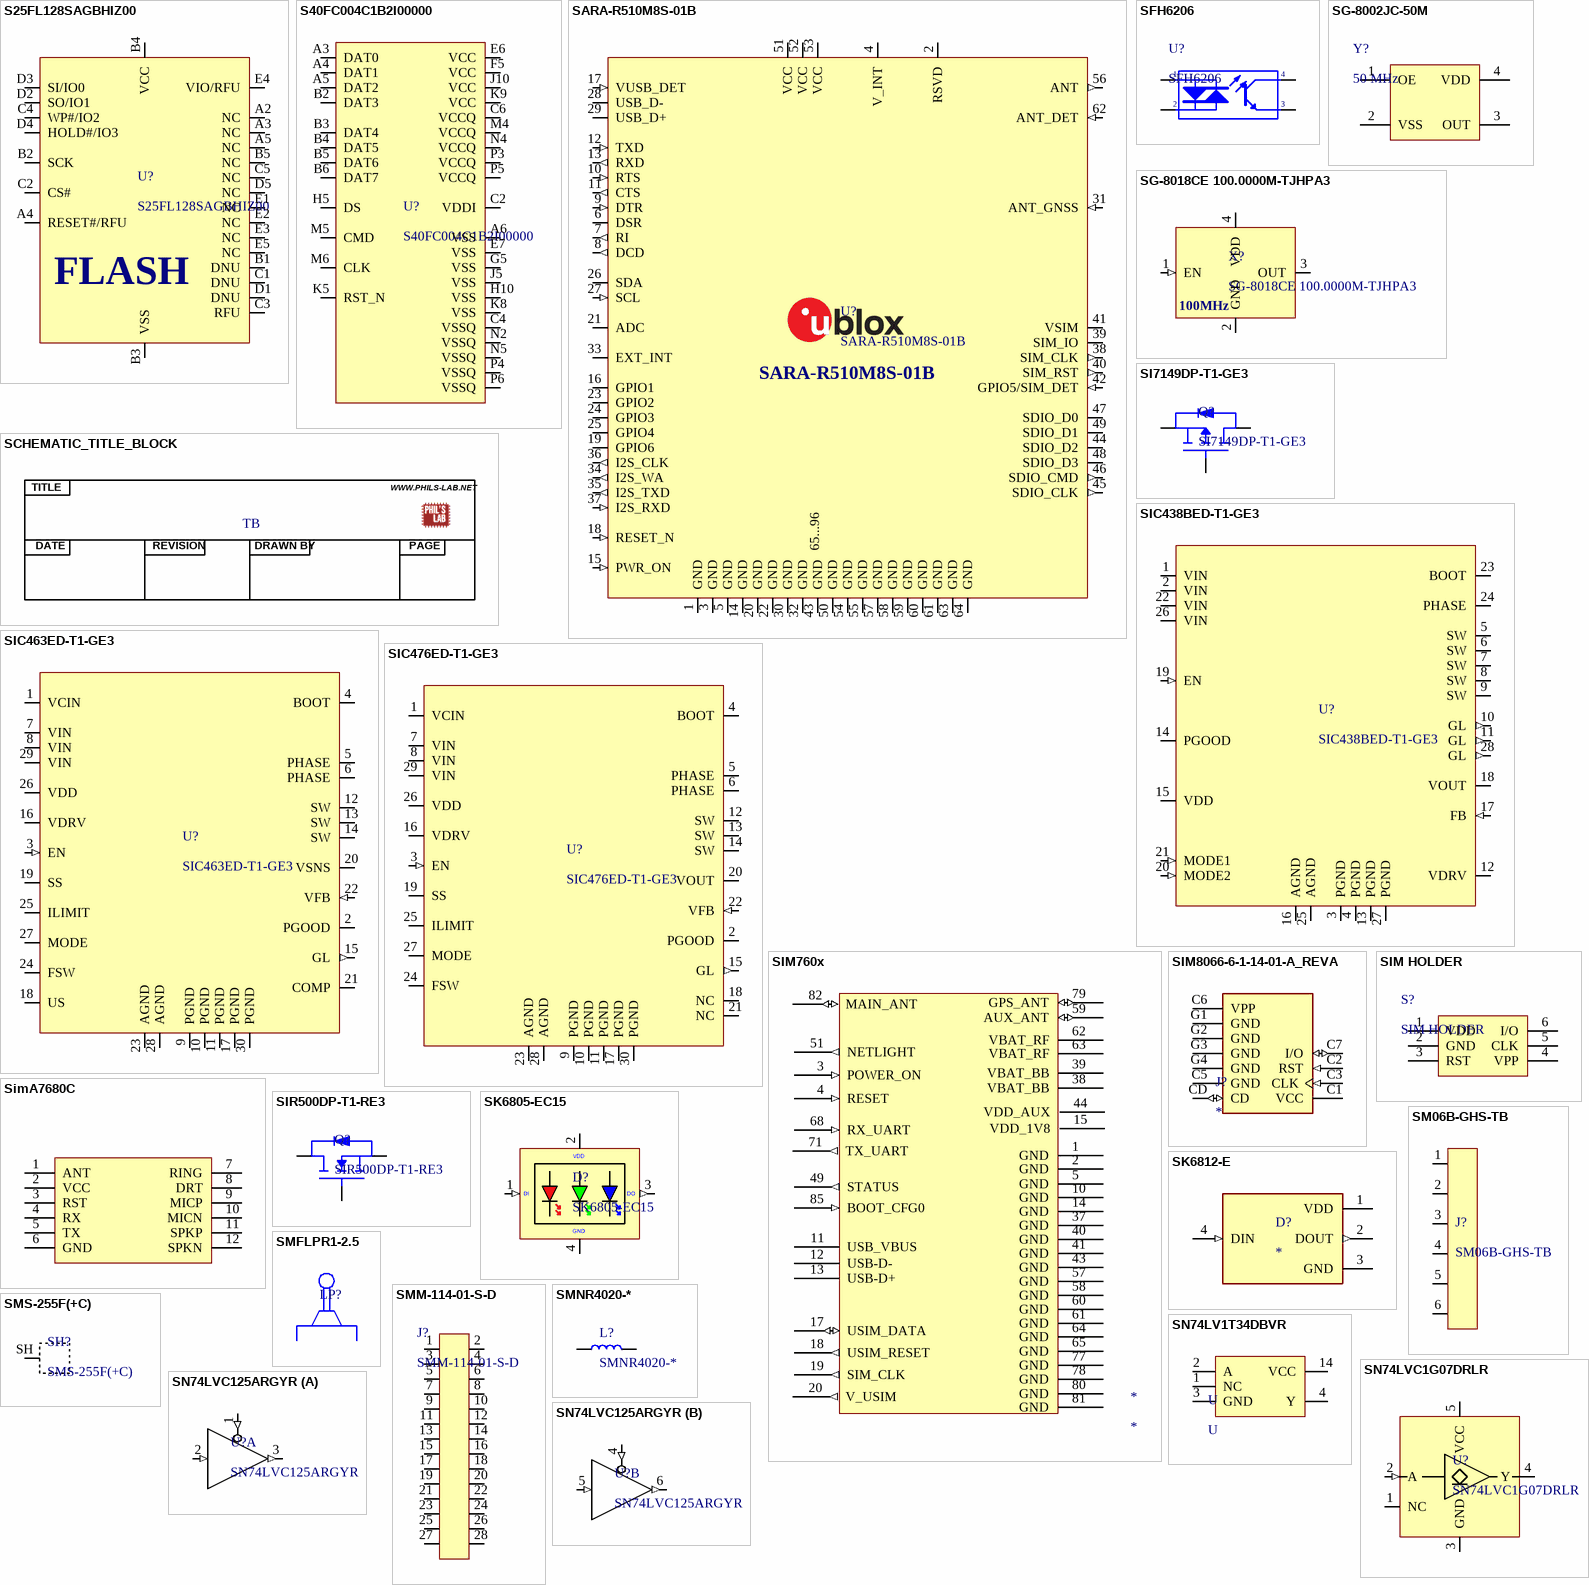
[diagram p16: symbols S25FL128SAGBHIZ00 to SN74LVC125ARGYR]

## S25FL128SAGBHIZ00
designator U?
NOR Flash 128Mb 133MHz QSPl; Manufacturer: Cypress Semiconductor; Manufacturer Part Number: S25FL128SAGBHIZ00
footprint BGA25C100P5X5_600X800X120 (BGA, 25-Leads, Body 6.00x8.00mmx1.20mm, Pitch 1.00mm)
pins: A2 NC, A3 NC, A4 RESET#/RFU, A5 NC, B1 DNU, B2 SCK, B3 VSS, B4 VCC, B5 NC, C1 DNU, C2 CS#, C3 RFU, C4 WP#/IO2, C5 NC, D1 DNU, D2 SO/IO1, D3 SI/IO0, D4 HOLD#/IO3, D5 NC, E1 NC, E2 NC, E3 NC, E4 VIO/RFU, E5 NC
text: FLASH

## S40FC004C1B2I00000
designator U?
eMMC MLC Memory 4GB 3V3; Manufacturer: SkyHigh Memory; Manufacturer Part Number: S40FC004C1B2I00000
footprint VFBGA153-9.0x7.5x0.8
pins: A3 DAT0, A4 DAT1, A5 DAT2, A6 VSS, B2 DAT3, B3 DAT4, B4 DAT5, B5 DAT6, B6 DAT7, C2 VDDI, C4 VSSQ, C6 VCCQ, E6 VCC, E7 VSS, F5 VCC, G5 VSS, H5 DS, H10 VSS, J5 VSS, J10 VCC, K5 RST_N, K8 VSS, K9 VCC, M4 VCCQ, M5 CMD, M6 CLK, N2 VSSQ, N4 VCCQ, N5 VSSQ, P3 VCCQ, P4 VSSQ, P5 VCCQ, P6 VSSQ

## SARA-R510M8S-01B
designator U?
Secure Cloud LTE-M and NB-IoT combo module with integrated u-blox M8 GNSS receiver for multi-regional use; Manufacturer: u-blox; Manufacturer Part Number: SARA-R510M8S-01B; Distributor Link: https://www.mouser.de/ProductDetail/u-blox/SARA-R510M8S-01B?qs=QNEnbhJQKvYa3sxdFdDP4w%3D%3D&gclid=CjwKCAiAwc-dBhA7EiwAxPRylKnSUPShzCKShE4YmhLtKIzyKR1Hn1Ejf9z6DrhP0wlU82vCiLopnxoC6RgQAvD_BwE
footprint SARA-XX (GSM/GPRS and GSM/EGPRS/HSPA Cellular Module)
pins: 1 GND (power), 2 RSVD, 3 GND (power), 4 V_INT (power), 5 GND (power), 6 DSR (io), 7 RI (out), 8 DCD (out), 9 DTR (in), 10 RTS (in), 11 CTS (out), 12 TXD (in), 13 RXD (out), 14 GND (power), 15 PWR_ON (in), 16 GPIO1 (io), 17 VUSB_DET (in), 18 RESET_N (in), 19 GPIO6, 20 GND (power), 21 ADC (power), 22 GND (power), 23 GPIO2 (io), 24 GPIO3 (io), 25 GPIO4 (io), 26 SDA (io), 27 SCL (in), 28 USB_D- (io), 29 USB_D+ (io), 30 GND (power), 31 ANT_GNSS (in), 32 GND (power), 33 EXT_INT, 34 I2S_WA (out), 35 I2S_TXD (out), 36 I2S_CLK (out), 37 I2S_RXD (in), 38 SIM_CLK (out), 39 SIM_IO (io), 40 SIM_RST (out), 41 VSIM (power), 42 GPIO5/SIM_DET (in), 43 GND (power), 44 SDIO_D2 (io), 45 SDIO_CLK (out), 46 SDIO_CMD (out), 47 SDIO_D0 (io), 48 SDIO_D3 (io), 49 SDIO_D1 (io), 50 GND (power), 51 VCC (power), 52 VCC (power), 53 VCC (power), 54 GND (power), 55 GND (power), 56 ANT (out), 57 GND (power), 58 GND (power), 59 GND (power), 60 GND (power), 61 GND (power), 62 ANT_DET (in), 63 GND (power), 64 GND (power), 65 GND (power), 66 GND (power), 67 GND (power), 68 GND (power), 69 GND (power), 70 GND (power), 71 GND (power), 72 GND (power), 73 GND (power), 74 GND (power), 75 GND (power), 76 GND (power), 77 GND (power), 78 GND (power), 79 GND (power), 80 GND (power), 81 GND (power), 82 GND (power), 83 GND (power), 84 GND (power), 85 GND (power), 86 GND (power), 87 GND (power), 88 GND (power), 89 GND (power), 90 GND (power), 91 GND (power), 92 GND (power), 93 GND (power), 94 GND (power), 95 GND (power), 96 GND (power)
text: 65...96

## SCHEMATIC_TITLE_BLOCK
designator TB  (value not drawn)  (graphical)
Default Schematic Title Block (Phil's Lab)
text: TITLE; WWW.PHILS-LAB.NET; DATE; REVISION; DRAWN BY; PAGE

## SFH6206
designator U?
pins: 1 A "Anode", 2 K "Cathode", 3 E "Emitter", 4 C "Collector"

## SG-8002JC-50M
designator Y?, comment 50 MHz
footprint OSC 50MHz
pins: 1 OE, 2 VSS, 3 OUT, 4 VDD

## SG-8018CE 100.0000M-TJHPA3
designator X?
Standard Clock Oscillators 100 MHz 1.8V-3.3V 15PF 50PPM 3.2mm x 2.5mm; Manufacturer: Epson; Manufacturer Part Number: SG-8018CE 100.0000M-TJHPA3
footprint XTAL_3225
pins: 1 EN (in), 2 GND (power), 3 OUT, 4 VDD (power)
text: 100MHz

## SI7149DP-T1-GE3
designator Q?
MOSFET P-Channel Vds=30V Id=50A Rds=5.2mR; Manufacturer: Vishay; Manufacturer Part Number: SI7149DP-T1-GE3
footprint PowerPAK-SO-8
pins: D, G, S

## SIC438BED-T1-GE3
designator U?
3 V to 28 V Input 8A microBUCK® DC/DC Converter; Manufacturer: Vishay; Manufacturer Part Number: SIC438BED-T1-GE3; Distributor Link: https://eu.mouser.com/ProductDetail/Vishay-Siliconix/SIC438BED-T1-GE3?qs=wd5RIQLrsJhAHAqoS3ITiQ%3D%3D; LCSC: C511430
footprint MLP44-24L
pins: 1 VIN (power), 2 VIN (power), 3 PGND (power), 4 PGND (power), 5 SW (power), 6 SW (power), 7 SW (power), 8 SW (power), 9 SW (power), 10 GL (out), 11 GL (out), 12 VDRV (power), 13 PGND (power), 14 PGOOD (oc), 15 VDD (power), 16 AGND (power), 17 FB (in), 18 VOUT (power), 19 EN (in), 20 MODE2 (in), 21 MODE1 (in), 22 VIN (power), 23 BOOT (power), 24 PHASE (power), 25 AGND (power), 26 VIN (power), 27 PGND (power), 28 GL (out)

## SIC463ED-T1-GE3
designator U?
4.5 V to 60 V Input, 4 A microBUCK® DC/DC Converter; Manufacturer: Vishay; Manufacturer Part Number: SIC463ED-T1-GE3
footprint MLP55-27L
pins: 1 VCIN (power), 2 PGOOD (oc), 3 EN (in), 4 BOOT (power), 5 PHASE (power), 6 PHASE (power), 7 VIN (power), 8 VIN (power), 9 PGND (power), 10 PGND (power), 11 PGND (power), 12 SW (power), 13 SW (power), 14 SW (power), 15 GL (out), 16 VDRV (power), 17 PGND (power), 18 US, 19 SS, 20 VSNS (power), 21 COMP, 22 VFB (in), 23 AGND (power), 24 FSW, 25 ILIMIT, 26 VDD (power), 27 MODE, 28 AGND (power), 29 VIN (power), 30 PGND (power)

## SIC476ED-T1-GE3
designator U?
4.5 V to 55 V Input, 3 A, 5 A, 8 A, 12 A microBUCK® DC/DC Converter; Manufacturer: Vishay; Manufacturer Part Number: SIC476ED-T1-GE3
footprint MLP55-27L
pins: 1 VCIN (power), 2 PGOOD (oc), 3 EN (in), 4 BOOT (power), 5 PHASE (power), 6 PHASE (power), 7 VIN (power), 8 VIN (power), 9 PGND (power), 10 PGND (power), 11 PGND (power), 12 SW (power), 13 SW (power), 14 SW (power), 15 GL (out), 16 VDRV (power), 17 PGND (power), 18 NC, 19 SS, 20 VOUT (power), 21 NC, 22 VFB (in), 23 AGND (power), 24 FSW, 25 ILIMIT, 26 VDD (power), 27 MODE, 28 AGND (power), 29 VIN (power), 30 PGND (power)

## SIM760x
designator *
footprint SIM7600CE - duplicate
pins: 1 GND, 2 GND, 3 POWER_ON (in), 4 RESET (in), 5 GND, 10 GND, 11 USB_VBUS, 12 USB-D-, 13 USB-D+, 14 GND, 15 VDD_1V8, 17 USIM_DATA (io), 18 USIM_RESET (out), 19 SIM_CLK (out), 20 V_USIM (out), 37 GND, 38 VBAT_BB, 39 VBAT_BB, 40 GND, 41 GND, 43 GND, 44 VDD_AUX, 49 STATUS (out), 51 NETLIGHT (out), 57 GND, 58 GND, 59 AUX_ANT (io), 60 GND, 61 GND, 62 VBAT_RF, 63 VBAT_RF, 64 GND, 65 GND, 68 RX_UART (in), 71 TX_UART (out), 77 GND, 78 GND, 79 GPS_ANT (io), 80 GND, 81 GND, 82 MAIN_ANT (io), 85 BOOT_CFG0 (in)

## SIM8066-6-1-14-01-A_REVA
designator J?
Nano SIM Card ConnectorPush-Push Type, SMT, 6Pin, 1.44mm Profile; MP: SIM8066-6-1-14-01-A_REVA; Package: None; Price: None; Value: *; Availability: Unavailable
footprint GCT_SIM8066-6-1-14-01-A_REVA
pins: C1 VCC (power), C2 RST (in), C3 CLK (in), C5 GND (power), C6 VPP (power), C7 I/O (io), CD (io), G1 GND (power), G2 GND (power), G3 GND (power), G4 GND (power)

## SIM HOLDER
designator S?
footprint SIM SOCKET
pins: 1 VDD, 2 GND, 3 RST, 4 VPP, 5 CLK, 6 I/O

## SimA7680C
designator ?
footprint SimA7680C
pins: 1 ANT, 2 VCC, 3 RST, 4 RX, 5 TX, 6 GND, 7 RING, 8 DRT, 9 MICP, 10 MICN, 11 SPKP, 12 SPKN

## SIR500DP-T1-RE3
designator Q?
MOSFET N-Channel Vds=30V Id=351A Rds=470uR; Manufacturer: Vishay; Manufacturer Part Number: SIR500DP-T1-RE3
footprint PowerPAK-SO-8
pins: D, G, S

## SK6805-EC15
designator D?
RGB LED SMD Addressable; Manufacturer: OPSCO; Manufacturer Part Number: SK6805-EC15; Datasheet: https://www.ledlightinghut.com/files/SK6805-EC15-REV-05-EN.pdf; Distributor Link: https://eu.mouser.com/ProductDetail/Adafruit/4492?qs=CUBnOrq4ZJz3oeplDXDOWA%3D%3D
footprint SK6805-EC15
pins: 1 DIN (in), 2 VDD (power), 3 DOUT (out), 4 GND (power)
text: DI; DO

## SK6812-E
designator D?
SK6812MINI-E is a smart LED control circuit and light emitting circuit in one controlled LED source, which has the shape of a 3528 LED chip.; MF: DONGGUANG OPSCO OPTOELECTRONICS CO., LTD; MP: SK6812-E; SnapEDA_Link: https://www.snapeda.com/parts/SK6812-E/DONGGUANG+OPSCO+OPTOELECTRONICS+CO.%252C+LTD/view-part/?ref=snap; Package: Package; Value: *; Check_prices: https://www.snapeda.com/parts/SK6812-E/DONGGUANG+OPSCO+OPTOELECTRONICS+CO.%252C+LTD/view-part/?ref=eda
footprint LED_SK6812-E
pins: 1 VDD (power), 2 DOUT (out), 3 GND (power), 4 DIN (in)

## SM06B-GHS-TB
designator J?
Header Connector 6 Position 1.25MM Pitch SMD Horizontal JST GH; Manufacturer: JST; Manufacturer Part Number: SM06B-GHS-TB
footprint Model Name (Footprint not found)
footprint SM06B-GHS-TB
pins: 1, 2, 3, 4, 5, 6

## SMFLPR1-2.5
designator LP?  (value not drawn)  (mechanical)
LED Light-Pipe Rectangular Lense 2.5in Length 1mm Core; Manufacturer: BIVAR; Manufacturer Part Number: SMFLPR1-2.5; Distributor Link: https://www.mouser.de/ProductDetail/Bivar/SMFLPR1-2.5?qs=jaLxTFIJCisDD%2F7xsHCz4Q%3D%3D
footprint SMFLPR1-2.5

## SMM-114-01-S-D
designator J?
Low Profile Socket Strip 2.00 mm Pitch THT; Manufacturer: Samtec; Manufacturer Part Number: SMM-114-01-S-D
footprint SMM-114-01-S-D
pins: 1, 2, 3, 4, 5, 6, 7, 8, 9, 10, 11, 12, 13, 14, 15, 16, 17, 18, 19, 20, 21, 22, 23, 24, 25, 26, 27, 28

## SMNR4020-*
designator L?
Inductor SXN SMNR4020 Series 4x4x2mm; Manufacturer: SXN; Manufacturer Part Number: SMNR4020-*; Distributor Link: *; LCSC: *
footprint SMNR4020 (Inductor SMNR4020)
pins: 1, 2

## SMS-255F(+C)
designator SH?
RF Shield 19.05mm x 19.05mm x 5.08mm / SMS-255F = Frame / SMS-255C = Cover; Manufacturer: LeaderTech; Manufacturer Part Number: SMS-255F
footprint SMS-255F
pins: SH

## SN74LV1T34DBVR
designator U, comment U
footprint SOT23 - 5 Leads
pins: 1 NC (power), 2 A, 3 GND (power), 4 Y, 14 VCC (power)

## SN74LVC1G07DRLR
designator U?
Single Buffer/Driver With Open-Drain Output; Manufacturer: Texas Instruments; Manufacturer Part Number: SN74LVC1G07DRLR; Distributor Link: https://www.mouser.de/ProductDetail/Texas-Instruments/SN74LVC1G07DRLR?qs=pajgIaoyDUjwau6f5T7MtQ%3D%3D; LCSC: C183013
footprint SOT-5 (SOT, 5-Leads, Body 1.60x1.60mm, Pitch 0.50mm, IPC Medium Density)
pins: 1 NC, 2 A (in), 3 GND (power), 4 Y (oc), 5 VCC (power)

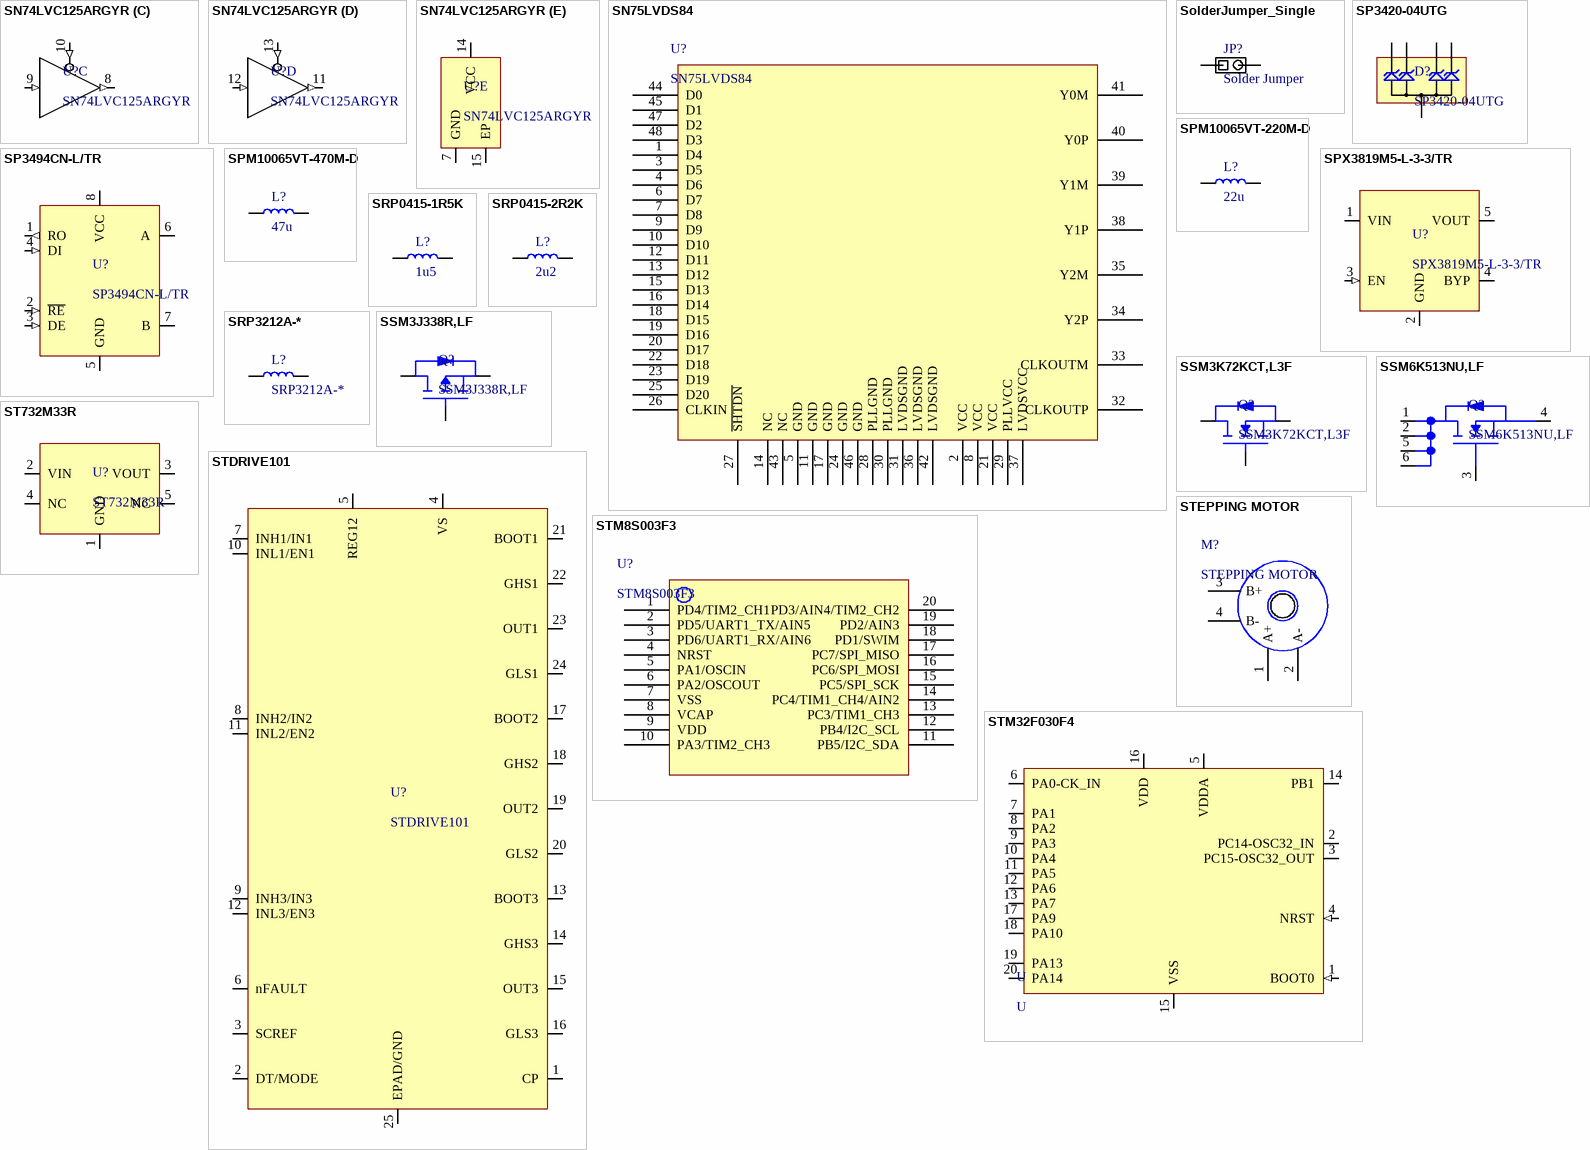
[diagram p17: symbols SN74LVC125ARGYR to STM32F030F4]

## SN74LVC125ARGYR
designator U?
Quadruple Bus Buffer Gate With 3-State Outputs; Manufacturer: Texas Instruments; Manufacturer Part Number: SN74LVC125ARGYR; Distributor Link: https://www.mouser.de/ProductDetail/Texas-Instruments/SN74LVC125ARGYR?qs=d9gICRQKuCcvN%252BAdiEuZ%252BA%3D%3D; LCSC: https://www.lcsc.com/product-detail/Buffer-Driver-Transceiver_Texas-Instruments-SN74LVC125ARGYR_C2652108.html
footprint VQFN-14 (QFN, 14-Leads, Body 3.50x3.50mm, Pitch 0.50mm, Thermal Pad 2.00x2.00mm, IPC Medium Density)
part A pins: 1 1~{OE} (in), 2 1A (in), 3 1Y (out)
part B pins: 4 2~{OE} (in), 5 2A (in), 6 2Y (out)
part C pins: 8 3Y (out), 9 3A (in), 10 3~{OE} (in)
part D pins: 11 4Y (out), 12 4A (in), 13 4~{OE} (in)
part E pins: 7 GND (power), 14 VCC (power), 15 EP (power)

## SN75LVDS84
designator U?
footprint TSSOP 48 PIN
pins: 1 D4, 2 VCC, 3 D5, 4 D6, 5 GND, 6 D7, 7 D8, 8 VCC, 9 D9, 10 D10, 11 GND, 12 D11, 13 D12, 14 NC, 15 D13, 16 D14, 17 GND, 18 D15, 19 D16, 20 D17, 21 VCC, 22 D18, 23 D19, 24 GND, 25 D20, 26 CLKIN, 27 ~{SHTDN}, 28 PLLGND, 29 PLLVCC, 30 PLLGND, 31 LVDSGND, 32 CLKOUTP, 33 CLKOUTM, 34 Y2P, 35 Y2M, 36 LVDSGND, 37 LVDSVCC, 38 Y1P, 39 Y1M, 40 Y0P, 41 Y0M, 42 LVDSGND, 43 NC, 44 D0, 45 D1, 46 GND, 47 D2, 48 D3

## SolderJumper_Single
designator JP?, comment Solder Jumper
Solder Jumper Single 0.5mm Pitch
footprint SolderJumper_Single
pins: 1, 2

## SP3420-04UTG
designator D?
TVS Diode Array Low Capacitance ESD Protection 4-Channel (Vwork=3V3, Vclamp=6V); Manufacturer: Littelfuse; Manufacturer Part Number: SP3420-04UTG
footprint uDFN-10
pins: 29, 38 GND, 47, 56, 110

## SP3494CN-L/TR
designator U?
3.3V Low Power RS-485 / RS-422 Transceiver SOIC-8; Manufacturer: MaxLinear; Manufacturer Part Number: SP3494CN-L/TR
footprint SOIC-8 (SOIC, 8-Leads, Body 4.91x3.90mm, Pitch 1.27mm, IPC Medium Density)
pins: 1 RO (out), 2 ~{RE} (in), 3 DE (in), 4 DI (in), 5 GND (power), 6 A (io), 7 B (io), 8 VCC (power)

## SPM10065VT-220M-D
designator L?, comment 22u
Inductor SMD 22uH 5.4A 20%; Manufacturer: TDK; Manufacturer Part Number: SPM10065VT-220M-D
footprint SPM10065VT-220M-D
pins: 1, 2

## SPM10065VT-470M-D
designator L?, comment 47u
Inductor SMD 47uH 4A 20%; Manufacturer: TDK; Manufacturer Part Number: SPM10065VT-470M-D
footprint SPM10065VT-220M-D
pins: 1, 2

## SPX3819M5-L-3-3/TR
designator U?
500mA +3.3V Low-Noise LDO Voltage Regulator; Manufacturer: MaxLinear; Manufacturer Part Number: SPX3819M5-L-3-3/TR
footprint SOT-23-5 (SOT23, 5-Leads, Body 2,90x2,80mm, Pitch 0,95mm, IPC Medium Density)
pins: 1 VIN (power), 2 GND (power), 3 EN (in), 4 BYP, 5 VOUT (power)

## SRP0415-1R5K
designator L?, comment 1u5
Inductor SMD 1.5uH Bourns SRP0415-1R5K; Manufacturer: Bourns; Manufacturer Part Number: SRP0415-1R5K
footprint SRP0415
pins: 1, 2

## SRP0415-2R2K
designator L?, comment 2u2
Inductor SMD 2.2uH Bourns SRP0415-2R2K; Manufacturer: Bourns; Manufacturer Part Number: SRP0415-2R2K
footprint SRP0415
pins: 1, 2

## SRP3212A-*
designator L?
Shielded Power Inductor SMD SRP3212A; Manufacturer: Bourns; Manufacturer Part Number: SRP3212A-*; Distributor Link: *
footprint SRP3212A
pins: 1, 2

## SSM3J338R,LF
designator Q?
MOSFET P-Channel Vds=12V Id=6A; Manufacturer Part Number: Toshiba; Manufacturer: SSM3J338R,LF
footprint SSM3J338R,LF-SOT23-F
pins: D, G, S

## SSM3K72KCT,L3F
designator Q?
MOSFET N-Channel Vds=60V Id=400mA Rds(on)=1.05R with ESD Protection; Manufacturer: Toshiba; Manufacturer Part Number: SSM3K72KCT,L3F; Distributor Link: https://www.mouser.de/ProductDetail/Toshiba/SSM3K72KCTL3F?qs=PDgMCp4xDJZBSQ%2Fqg29QOw%3D%3D
footprint CST3-SOT-883
pins: D, G, S

## SSM6K513NU,LF
designator Q?
MOSFET N-Channel Vds=30V Vgs=20V Id=15A; Manufacturer: Toshiba; Manufacturer Part Number: SSM6K513NU,LF; Distributor Link: https://www.mouser.de/ProductDetail/Toshiba/SSM6K513NULF?qs=zPgndZZmKGbOGaIT7oO3Dw%3D%3D; LCSC: C3008601
footprint SOT-1220
pins: 1 D, 2 D, 3 G, 4 S, 5 D, 6 D

## ST732M33R
designator U?
300 mA, 28 V LDO low-dropout voltage regulator, with 5 µA quiescent current; Manufacturer: STMicroelectronics; Manufacturer Part Number: ST732M33R
footprint SOT-23-5 (SOT23, 5-Leads, Body 2,90x2,80mm, Pitch 0,95mm, IPC Medium Density)
pins: 1 GND (power), 2 VIN (power), 3 VOUT (power), 4 NC, 5 NC

## STDRIVE101
designator U?
Gate Driver 3x Half-Bridge; Manufacturer: STMicroelectronics; Manufacturer Part Number: STDRIVE101
footprint VFQFPN24_4X4X1 (QFN, 24-Leads, Body 4,00x4,00mm, Pitch 0,50mm, Thermal Pad 2,50x2,50mm, IPC Medium Density)
pins: 1 CP, 2 DT/MODE, 3 SCREF, 4 VS, 5 REG12, 6 nFAULT, 7 INH1/IN1, 8 INH2/IN2, 9 INH3/IN3, 10 INL1/EN1, 11 INL2/EN2, 12 INL3/EN3, 13 BOOT3, 14 GHS3, 15 OUT3, 16 GLS3, 17 BOOT2, 18 GHS2, 19 OUT2, 20 GLS2, 21 BOOT1, 22 GHS1, 23 OUT1, 24 GLS1, 25 EPAD/GND

## STEPPING MOTOR
designator M?
pins: 1 A+, 2 A-, 3 B+, 4 B-

## STM8S003F3
designator U?
Published: 30-May-2008; DatasheetVersion: rev6, Mar-2008; PackageVersion: Mar-2008; PackageReference: LQFP48; Publisher: Altium Limited; PackageDescription: 48-Pin Low-Profile Quad Flat Pack, 7 x 7 mm Body, 0.5 mm Pitch (LQFP48); ComponentLink1Description: Manufacturer Link; ComponentLink1URL: www.st.com/stm32; ComponentLink2Description: Datasheet; ComponentLink2URL: http://www.st.com/stonline/products/literature/ds/13586.pdf
footprint TSSOP 20PIN (TSOP, 20-Leads, Body 6.6x4.5mm (max), Pitch 0.65mm, IPC High Density)
pins: 1 PD4/TIM2_CH1, 2 PD5/UART1_TX/AIN5, 3 PD6/UART1_RX/AIN6, 4 NRST, 5 PA1/OSCIN, 6 PA2/OSCOUT, 7 VSS, 8 VCAP, 9 VDD, 10 PA3/TIM2_CH3, 11 PB5/I2C_SDA, 12 PB4/I2C_SCL, 13 PC3/TIM1_CH3, 14 PC4/TIM1_CH4/AIN2, 15 PC5/SPI_SCK, 16 PC6/SPI_MOSI, 17 PC7/SPI_MISO, 18 PD1/SWIM, 19 PD2/AIN3, 20 PD3/AIN4/TIM2_CH2

## STM32F030F4
designator U, comment U
Stm32f030f4p6 TSSOP-20 Arm Cortex-M0 MCU 16KB Falsh
footprint TSSOP-20 (TSOP, 20-Leads, Body 6,50x4,40mm, Pitch 0,65mm, IPC Medium Density)
pins: 1 BOOT0 (in), 2 PC14-OSC32_IN, 3 PC15-OSC32_OUT, 4 NRST (in), 5 VDDA (power), 6 PA0-CK_IN, 7 PA1, 8 PA2, 9 PA3, 10 PA4, 11 PA5, 12 PA6, 13 PA7, 14 PB1, 15 VSS (power), 16 VDD (power), 17 PA9, 18 PA10, 19 PA13, 20 PA14

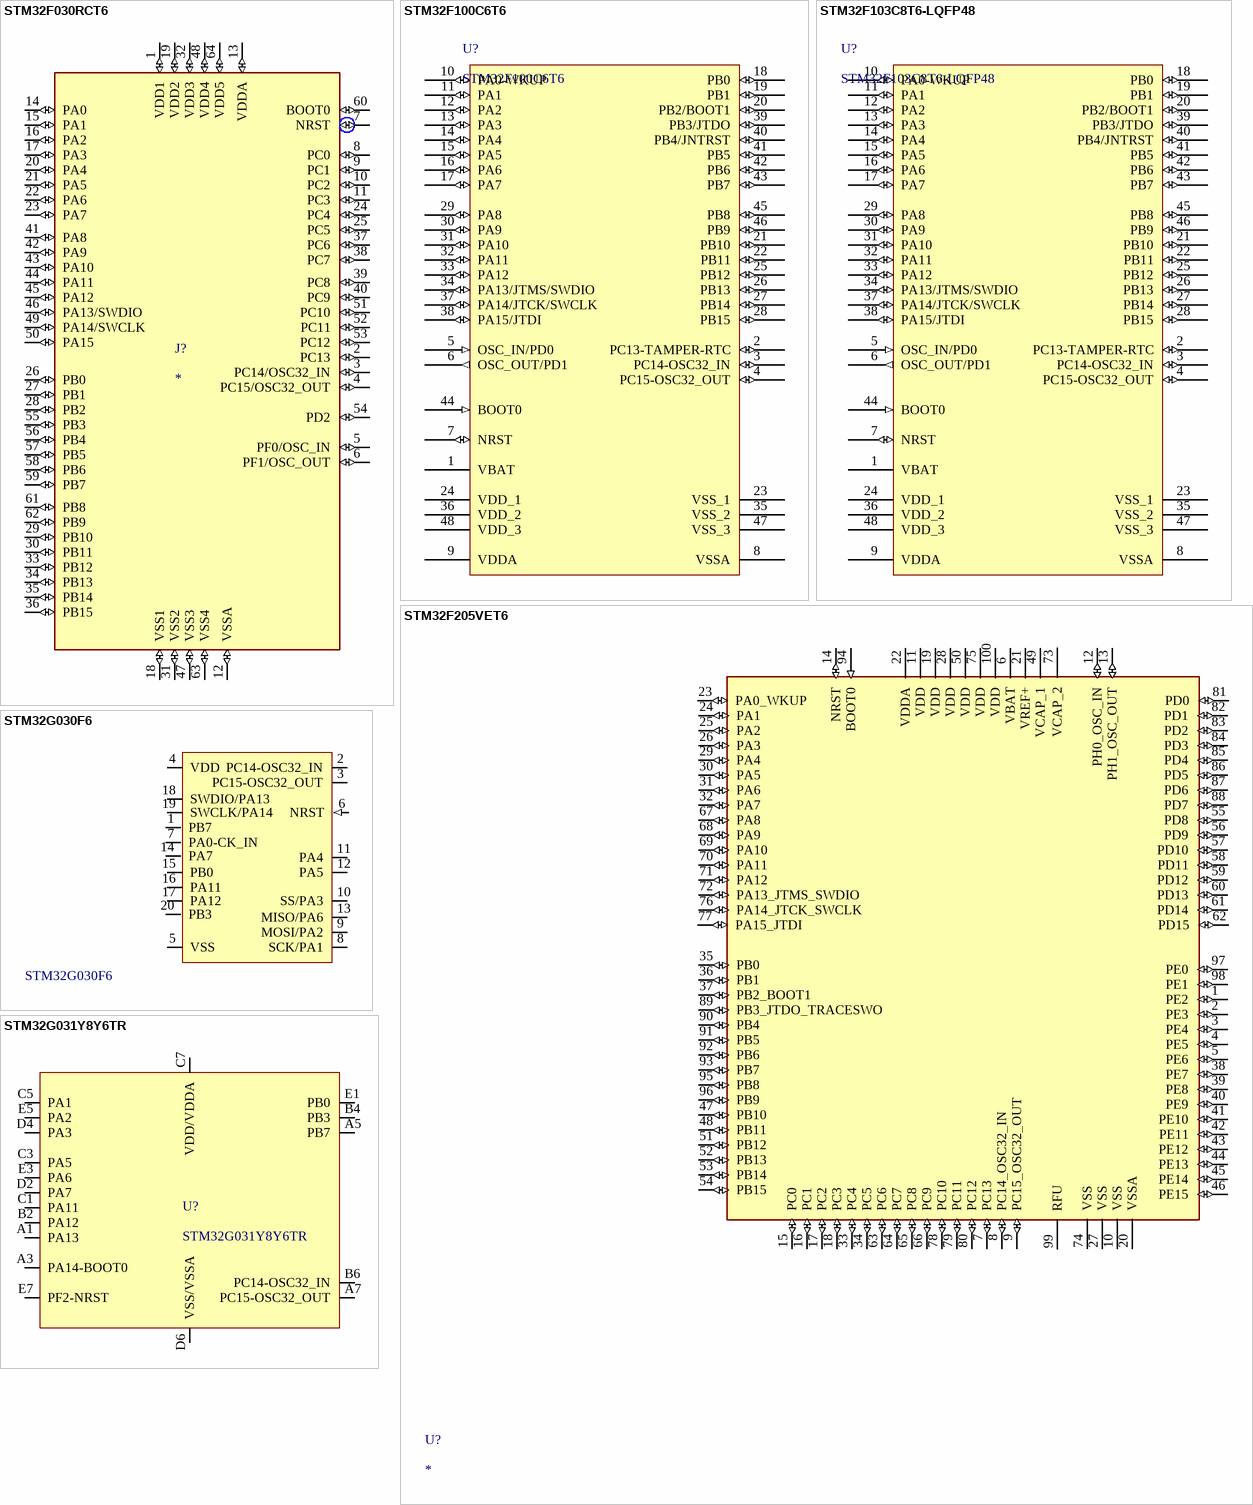
[diagram p18: symbols STM32F030RCT6 to STM32G031Y8Y6TR]

## STM32F030RCT6
designator J?
ARMÂ® CortexÂ®-M0 STM32F0 Microcontroller IC 32-Bit Single-Core 48MHz 256KB (256K x 8) FLASH 64-LQFP (10x10); MF: STMicroelectronics; MP: STM32F030RCT6; SnapEDA_Link: https://www.snapeda.com/parts/STM32F030RCT6/STMicroelectronics/view-part/?ref=snap; Package: LQFP-64 STMicroelectronics; Value: *; Check_prices: https://www.snapeda.com/parts/STM32F030RCT6/STMicroelectronics/view-part/?ref=eda
footprint LQFP64
pins: 1 VDD1 (io), 2 PC13 (io), 3 PC14/OSC32_IN (io), 4 PC15/OSC32_OUT (io), 5 PF0/OSC_IN (io), 6 PF1/OSC_OUT (io), 7 NRST (io), 8 PC0 (io), 9 PC1 (io), 10 PC2 (io), 11 PC3 (io), 12 VSSA (io), 13 VDDA (io), 14 PA0 (io), 15 PA1 (io), 16 PA2 (io), 17 PA3 (io), 18 VSS1 (io), 19 VDD2 (io), 20 PA4 (io), 21 PA5 (io), 22 PA6 (io), 23 PA7 (io), 24 PC4 (io), 25 PC5 (io), 26 PB0 (io), 27 PB1 (io), 28 PB2 (io), 29 PB10 (io), 30 PB11 (io), 31 VSS2 (io), 32 VDD3 (io), 33 PB12 (io), 34 PB13 (io), 35 PB14 (io), 36 PB15 (io), 37 PC6 (io), 38 PC7 (io), 39 PC8 (io), 40 PC9 (io), 41 PA8 (io), 42 PA9 (io), 43 PA10 (io), 44 PA11 (io), 45 PA12 (io), 46 PA13/SWDIO (io), 47 VSS3 (io), 48 VDD4 (io), 49 PA14/SWCLK (io), 50 PA15 (io), 51 PC10 (io), 52 PC11 (io), 53 PC12 (io), 54 PD2 (io), 55 PB3 (io), 56 PB4 (io), 57 PB5 (io), 58 PB6 (io), 59 PB7 (io), 60 BOOT0 (io), 61 PB8 (io), 62 PB9 (io), 63 VSS4 (io), 64 VDD5 (io)

## STM32F100C6T6
designator U?
Published: 30-May-2008; DatasheetVersion: rev6, Mar-2008; PackageVersion: Mar-2008; PackageReference: LQFP48; Publisher: Altium Limited; PackageDescription: 48-Pin Low-Profile Quad Flat Pack, 7 x 7 mm Body, 0.5 mm Pitch (LQFP48); ComponentLink1Description: Manufacturer Link; ComponentLink1URL: www.st.com/stm32; ComponentLink2Description: Datasheet; ComponentLink2URL: http://www.st.com/stonline/products/literature/ds/13586.pdf
footprint LQFP 48 PIN (TSQFP, 48-Leads, Body 9.2x9.2mm (max), Pitch 0.50mm, IPC Medium Density)
pins: 1 VBAT (power), 2 PC13-TAMPER-RTC (io), 3 PC14-OSC32_IN (io), 4 PC15-OSC32_OUT (io), 5 OSC_IN/PD0 (in), 6 OSC_OUT/PD1 (out), 7 NRST (io), 8 VSSA (power), 9 VDDA (power), 10 PA0-WKUP (io), 11 PA1 (io), 12 PA2 (io), 13 PA3 (io), 14 PA4 (io), 15 PA5 (io), 16 PA6 (io), 17 PA7 (io), 18 PB0 (io), 19 PB1 (io), 20 PB2/BOOT1 (io), 21 PB10 (io), 22 PB11 (io), 23 VSS_1 (power), 24 VDD_1 (power), 25 PB12 (io), 26 PB13 (io), 27 PB14 (io), 28 PB15 (io), 29 PA8 (io), 30 PA9 (io), 31 PA10 (io), 32 PA11 (io), 33 PA12 (io), 34 PA13/JTMS/SWDIO (io), 35 VSS_2 (power), 36 VDD_2 (power), 37 PA14/JTCK/SWCLK (io), 38 PA15/JTDI (io), 39 PB3/JTDO (io), 40 PB4/JNTRST (io), 41 PB5 (io), 42 PB6 (io), 43 PB7 (io), 44 BOOT0 (in), 45 PB8 (io), 46 PB9 (io), 47 VSS_3 (power), 48 VDD_3 (power)

## STM32F103C8T6-LQFP48
designator U?
Published: 30-May-2008; DatasheetVersion: rev6, Mar-2008; PackageVersion: Mar-2008; PackageReference: LQFP48; Publisher: Altium Limited; PackageDescription: 48-Pin Low-Profile Quad Flat Pack, 7 x 7 mm Body, 0.5 mm Pitch (LQFP48); ComponentLink1Description: Manufacturer Link; ComponentLink1URL: www.st.com/stm32; ComponentLink2Description: Datasheet; ComponentLink2URL: http://www.st.com/stonline/products/literature/ds/13586.pdf
footprint LQFP 48 PIN (TSQFP, 48-Leads, Body 9.2x9.2mm (max), Pitch 0.50mm, IPC Medium Density)
pins: 1 VBAT (power), 2 PC13-TAMPER-RTC (io), 3 PC14-OSC32_IN (io), 4 PC15-OSC32_OUT (io), 5 OSC_IN/PD0 (in), 6 OSC_OUT/PD1 (out), 7 NRST (io), 8 VSSA (power), 9 VDDA (power), 10 PA0-WKUP (io), 11 PA1 (io), 12 PA2 (io), 13 PA3 (io), 14 PA4 (io), 15 PA5 (io), 16 PA6 (io), 17 PA7 (io), 18 PB0 (io), 19 PB1 (io), 20 PB2/BOOT1 (io), 21 PB10 (io), 22 PB11 (io), 23 VSS_1 (power), 24 VDD_1 (power), 25 PB12 (io), 26 PB13 (io), 27 PB14 (io), 28 PB15 (io), 29 PA8 (io), 30 PA9 (io), 31 PA10 (io), 32 PA11 (io), 33 PA12 (io), 34 PA13/JTMS/SWDIO (io), 35 VSS_2 (power), 36 VDD_2 (power), 37 PA14/JTCK/SWCLK (io), 38 PA15/JTDI (io), 39 PB3/JTDO (io), 40 PB4/JNTRST (io), 41 PB5 (io), 42 PB6 (io), 43 PB7 (io), 44 BOOT0 (in), 45 PB8 (io), 46 PB9 (io), 47 VSS_3 (power), 48 VDD_3 (power)

## STM32F205VET6
designator U?
ARMÂ® CortexÂ®-M3 STM32F2 Microcontroller IC 32-Bit Single-Core 120MHz 512KB (512K x 8) FLASH 100-LQFP (14x14); MF: STMicroelectronics; MP: STM32F205VET6; SnapEDA_Link: https://www.snapeda.com/parts/STM32F205VET6/STMicroelectronics/view-part/?ref=snap; Package: LQFP-100 STMicroelectronics; Value: *; Check_prices: https://www.snapeda.com/parts/STM32F205VET6/STMicroelectronics/view-part/?ref=eda
footprint STM32F205
pins: 1 PE2 (io), 2 PE3 (io), 3 PE4 (io), 4 PE5 (io), 5 PE6 (io), 6 VBAT (power), 7 PC13 (io), 8 PC14_OSC32_IN (io), 9 PC15_OSC32_OUT (io), 10 VSS (power), 11 VDD (power), 12 PH0_OSC_IN (io), 13 PH1_OSC_OUT (io), 14 NRST (io), 15 PC0 (io), 16 PC1 (io), 17 PC2 (io), 18 PC3 (io), 19 VDD (power), 20 VSSA (power), 21 VREF+ (power), 22 VDDA (power), 23 PA0_WKUP (io), 24 PA1 (io), 25 PA2 (io), 26 PA3 (io), 27 VSS (power), 28 VDD (power), 29 PA4 (io), 30 PA5 (io), 31 PA6 (io), 32 PA7 (io), 33 PC4 (io), 34 PC5 (io), 35 PB0 (io), 36 PB1 (io), 37 PB2_BOOT1 (io), 38 PE7 (io), 39 PE8 (io), 40 PE9 (io), 41 PE10 (io), 42 PE11 (io), 43 PE12 (io), 44 PE13 (io), 45 PE14 (io), 46 PE15 (io), 47 PB10 (io), 48 PB11 (io), 49 VCAP_1 (power), 50 VDD (power), 51 PB12 (io), 52 PB13 (io), 53 PB14 (io), 54 PB15 (io), 55 PD8 (io), 56 PD9 (io), 57 PD10 (io), 58 PD11 (io), 59 PD12 (io), 60 PD13 (io), 61 PD14 (io), 62 PD15 (io), 63 PC6 (io), 64 PC7 (io), 65 PC8 (io), 66 PC9 (io), 67 PA8 (io), 68 PA9 (io), 69 PA10 (io), 70 PA11 (io), 71 PA12 (io), 72 PA13_JTMS_SWDIO (io), 73 VCAP_2 (power), 74 VSS (power), 75 VDD (power), 76 PA14_JTCK_SWCLK (io), 77 PA15_JTDI (io), 78 PC10 (io), 79 PC11 (io), 80 PC12 (io), 81 PD0 (io), 82 PD1 (io), 83 PD2 (io), 84 PD3 (io), 85 PD4 (io), 86 PD5 (io), 87 PD6 (io), 88 PD7 (io), 89 PB3_JTDO_TRACESWO (io), 90 PB4 (io), 91 PB5 (io), 92 PB6 (io), 93 PB7 (io), 94 BOOT0 (in), 95 PB8 (io), 96 PB9 (io), 97 PE0 (io), 98 PE1 (io), 99 RFU, 100 VDD (power)

## STM32G030F6
designator ?
footprint SOP65P640X120-20N
pins: 1 PB7 (io), 2 PC14-OSC32_IN, 3 PC15-OSC32_OUT, 4 VDD (power), 5 VSS, 6 NRST (in), 7 PA0-CK_IN (io), 8 SCK/PA1 (io), 9 MOSI/PA2 (io), 10 SS/PA3 (io), 11 PA4 (io), 12 PA5 (io), 13 MISO/PA6 (io), 14 PA7 (io), 15 PB0 (io), 16 PA11 (io), 17 PA12 (io), 18 SWDIO/PA13 (io), 19 SWCLK/PA14 (io), 20 PB3 (io)

## STM32G031Y8Y6TR
designator U?
ARM Microcontrollers - MCU Mainstream Arm Cortex-M0+ MCU 64 Kbytes of Flash 8 Kbytes RAM, 64 MHz CPU STM32; Manufacturer: STMicroelectronics; Manufacturer Part Number: STM32G031Y8Y6TR
footprint WLCSP18
pins: A1 PA13, A3 PA14-BOOT0, A5 PB7, A7 PC15-OSC32_OUT, B2 PA12, B4 PB3, B6 PC14-OSC32_IN, C1 PA11, C3 PA5, C5 PA1, C7 VDD/VDDA (power), D2 PA7, D4 PA3, D6 VSS/VSSA (power), E1 PB0, E3 PA6, E5 PA2, E7 PF2-NRST

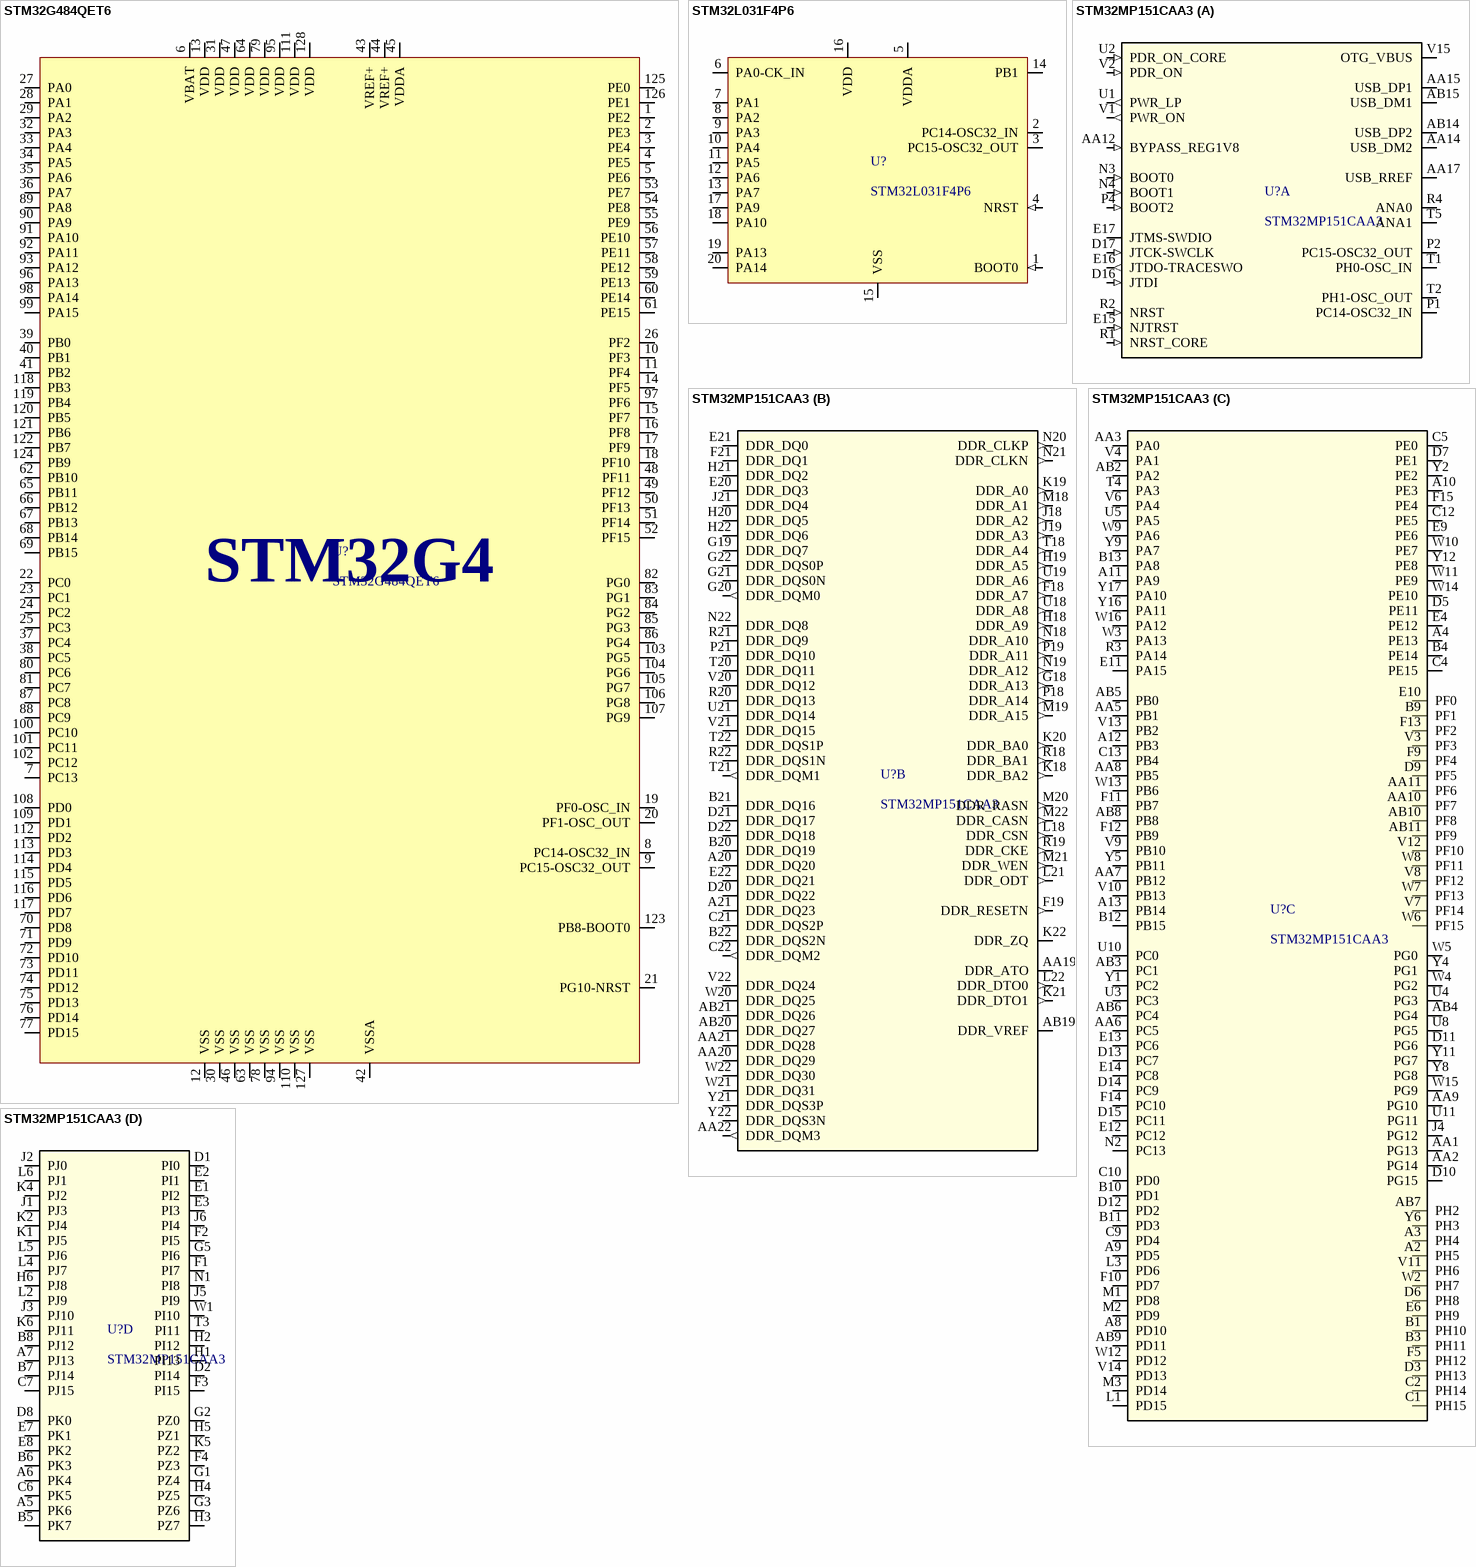
[diagram p19: symbols STM32G484QET6 to STM32MP151CAA3]

## STM32G484QET6
designator U?
STM32G4 Microcontroller LQFP-128 170 MHz 107 I/O; Manufacturer: STMicroelectronics; Manufacturer Part Number: STM32G484QET6
footprint LQFP-128 (CQFP, 128-Leads, Body 16,00x16,00mm, Pitch 0,40mm, IPC Medium Density)
pins: 1 PE2, 2 PE3, 3 PE4, 4 PE5, 5 PE6, 6 VBAT, 7 PC13, 8 PC14-OSC32_IN, 9 PC15-OSC32_OUT, 10 PF3, 11 PF4, 12 VSS, 13 VDD, 14 PF5, 15 PF7, 16 PF8, 17 PF9, 18 PF10, 19 PF0-OSC_IN, 20 PF1-OSC_OUT, 21 PG10-NRST, 22 PC0, 23 PC1, 24 PC2, 25 PC3, 26 PF2, 27 PA0, 28 PA1, 29 PA2, 30 VSS, 31 VDD, 32 PA3, 33 PA4, 34 PA5, 35 PA6, 36 PA7, 37 PC4, 38 PC5, 39 PB0, 40 PB1, 41 PB2, 42 VSSA, 43 VREF+, 44 VREF+, 45 VDDA, 46 VSS, 47 VDD, 48 PF11, 49 PF12, 50 PF13, 51 PF14, 52 PF15, 53 PE7, 54 PE8, 55 PE9, 56 PE10, 57 PE11, 58 PE12, 59 PE13, 60 PE14, 61 PE15, 62 PB10, 63 VSS, 64 VDD, 65 PB11, 66 PB12, 67 PB13, 68 PB14, 69 PB15, 70 PD8, 71 PD9, 72 PD10, 73 PD11, 74 PD12, 75 PD13, 76 PD14, 77 PD15, 78 VSS, 79 VDD, 80 PC6, 81 PC7, 82 PG0, 83 PG1, 84 PG2, 85 PG3, 86 PG4, 87 PC8, 88 PC9, 89 PA8, 90 PA9, 91 PA10, 92 PA11, 93 PA12, 94 VSS, 95 VDD, 96 PA13, 97 PF6, 98 PA14, 99 PA15, 100 PC10, 101 PC11, 102 PC12, 103 PG5, 104 PG6, 105 PG7, 106 PG8, 107 PG9, 108 PD0, 109 PD1, 110 VSS, 111 VDD, 112 PD2, 113 PD3, 114 PD4, 115 PD5, 116 PD6, 117 PD7, 118 PB3, 119 PB4, 120 PB5, 121 PB6, 122 PB7, 123 PB8-BOOT0, 124 PB9, 125 PE0, 126 PE1, 127 VSS, 128 VDD
text: STM32G4

## STM32L031F4P6
designator U?
Access line ultra-low-power 32-bit MCU Arm®-based / Cortex®-M0+, up to 32KB Flash, 8KB SRAM, 1KB EEPROM, ADC; Manufacturer: STMicroelectronics; Manufacturer Part Number: STM32L031F4P6
footprint TSSOP-20 (TSOP, 20-Leads, Body 6,50x4,40mm, Pitch 0,65mm, IPC Medium Density)
pins: 1 BOOT0 (in), 2 PC14-OSC32_IN, 3 PC15-OSC32_OUT, 4 NRST (in), 5 VDDA (power), 6 PA0-CK_IN, 7 PA1, 8 PA2, 9 PA3, 10 PA4, 11 PA5, 12 PA6, 13 PA7, 14 PB1, 15 VSS (power), 16 VDD (power), 17 PA9, 18 PA10, 19 PA13, 20 PA14

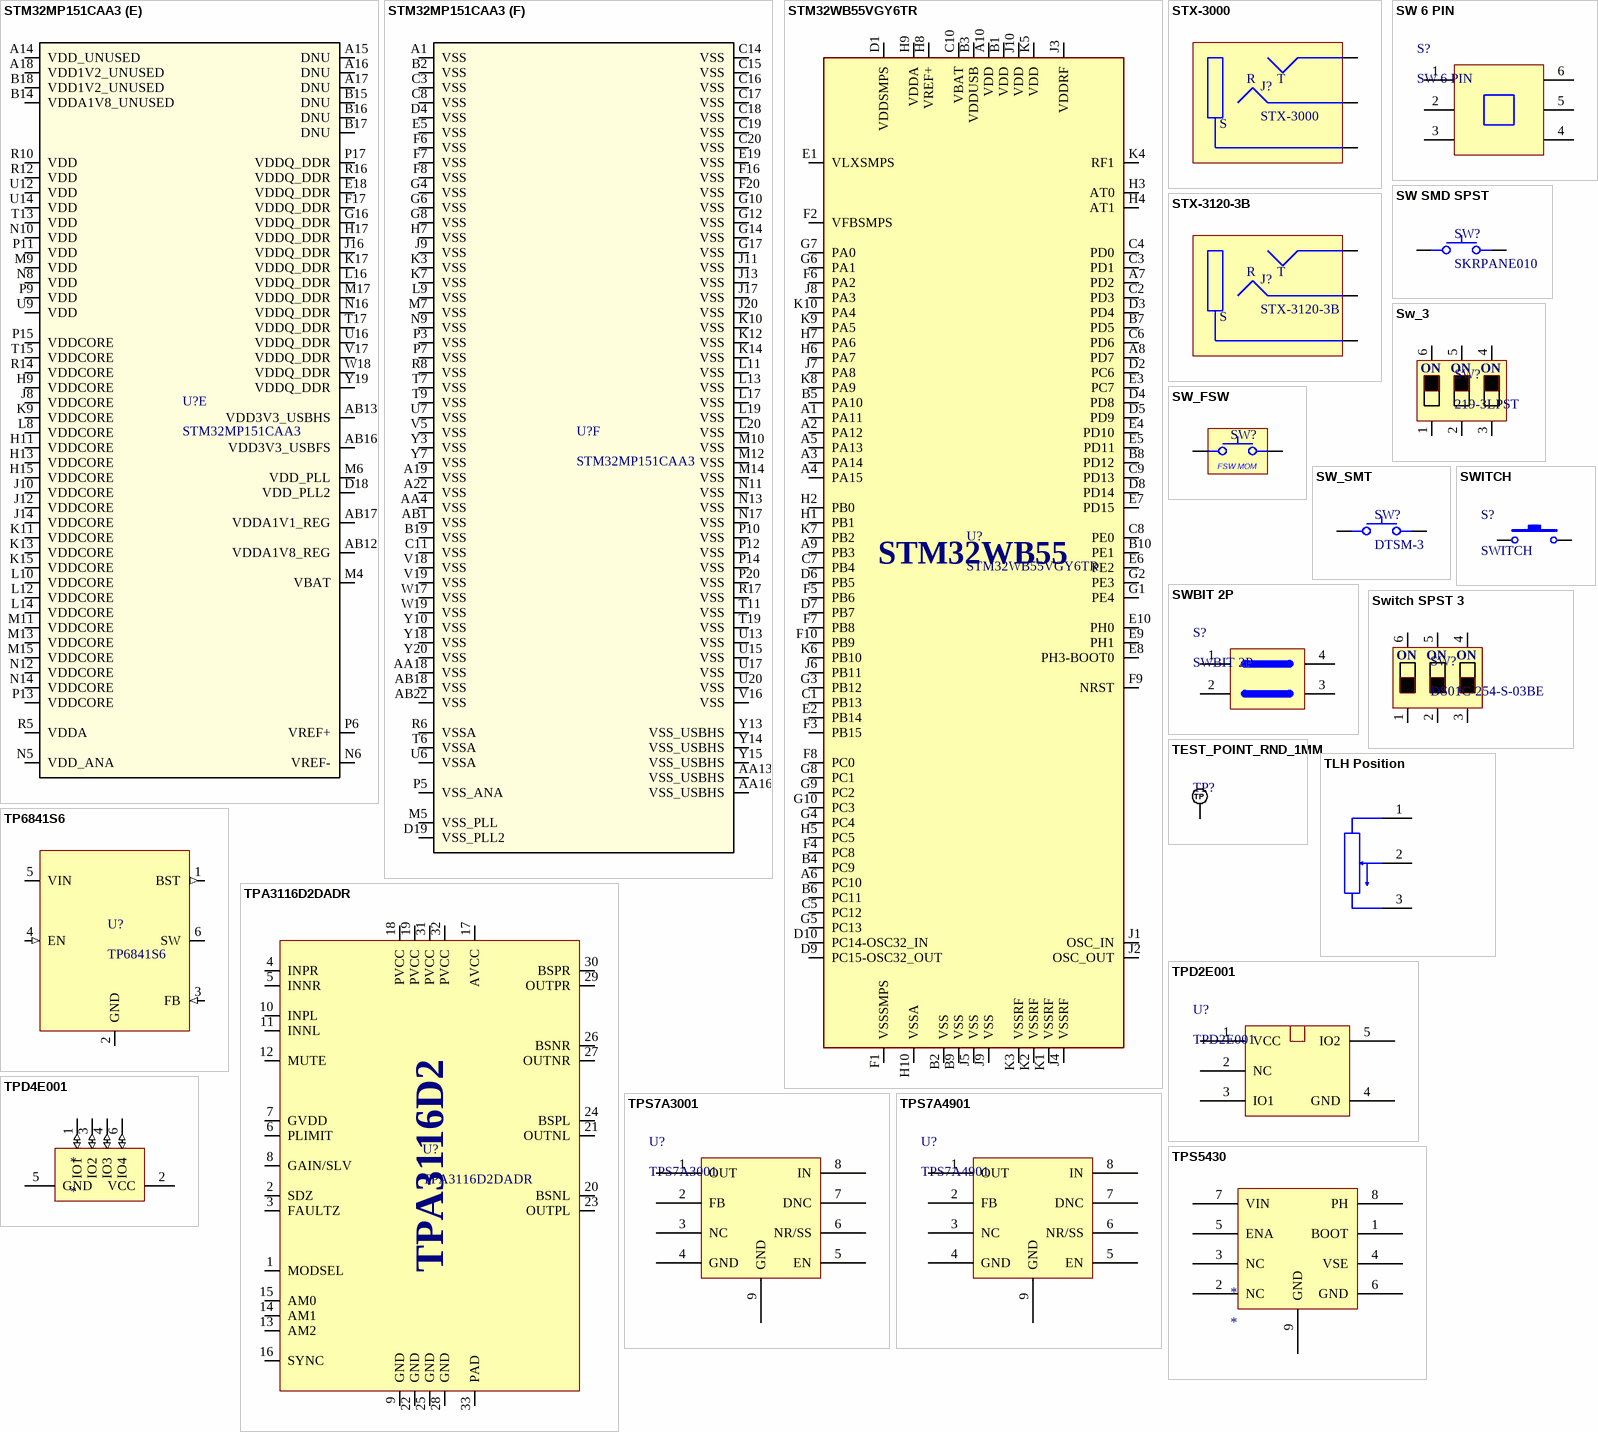
[diagram p20: symbols STM32MP151CAA3 to TPS5430]